# Altium schematic symbol library SamacSys.SchLib: 207 symbols (part 2 of 3)
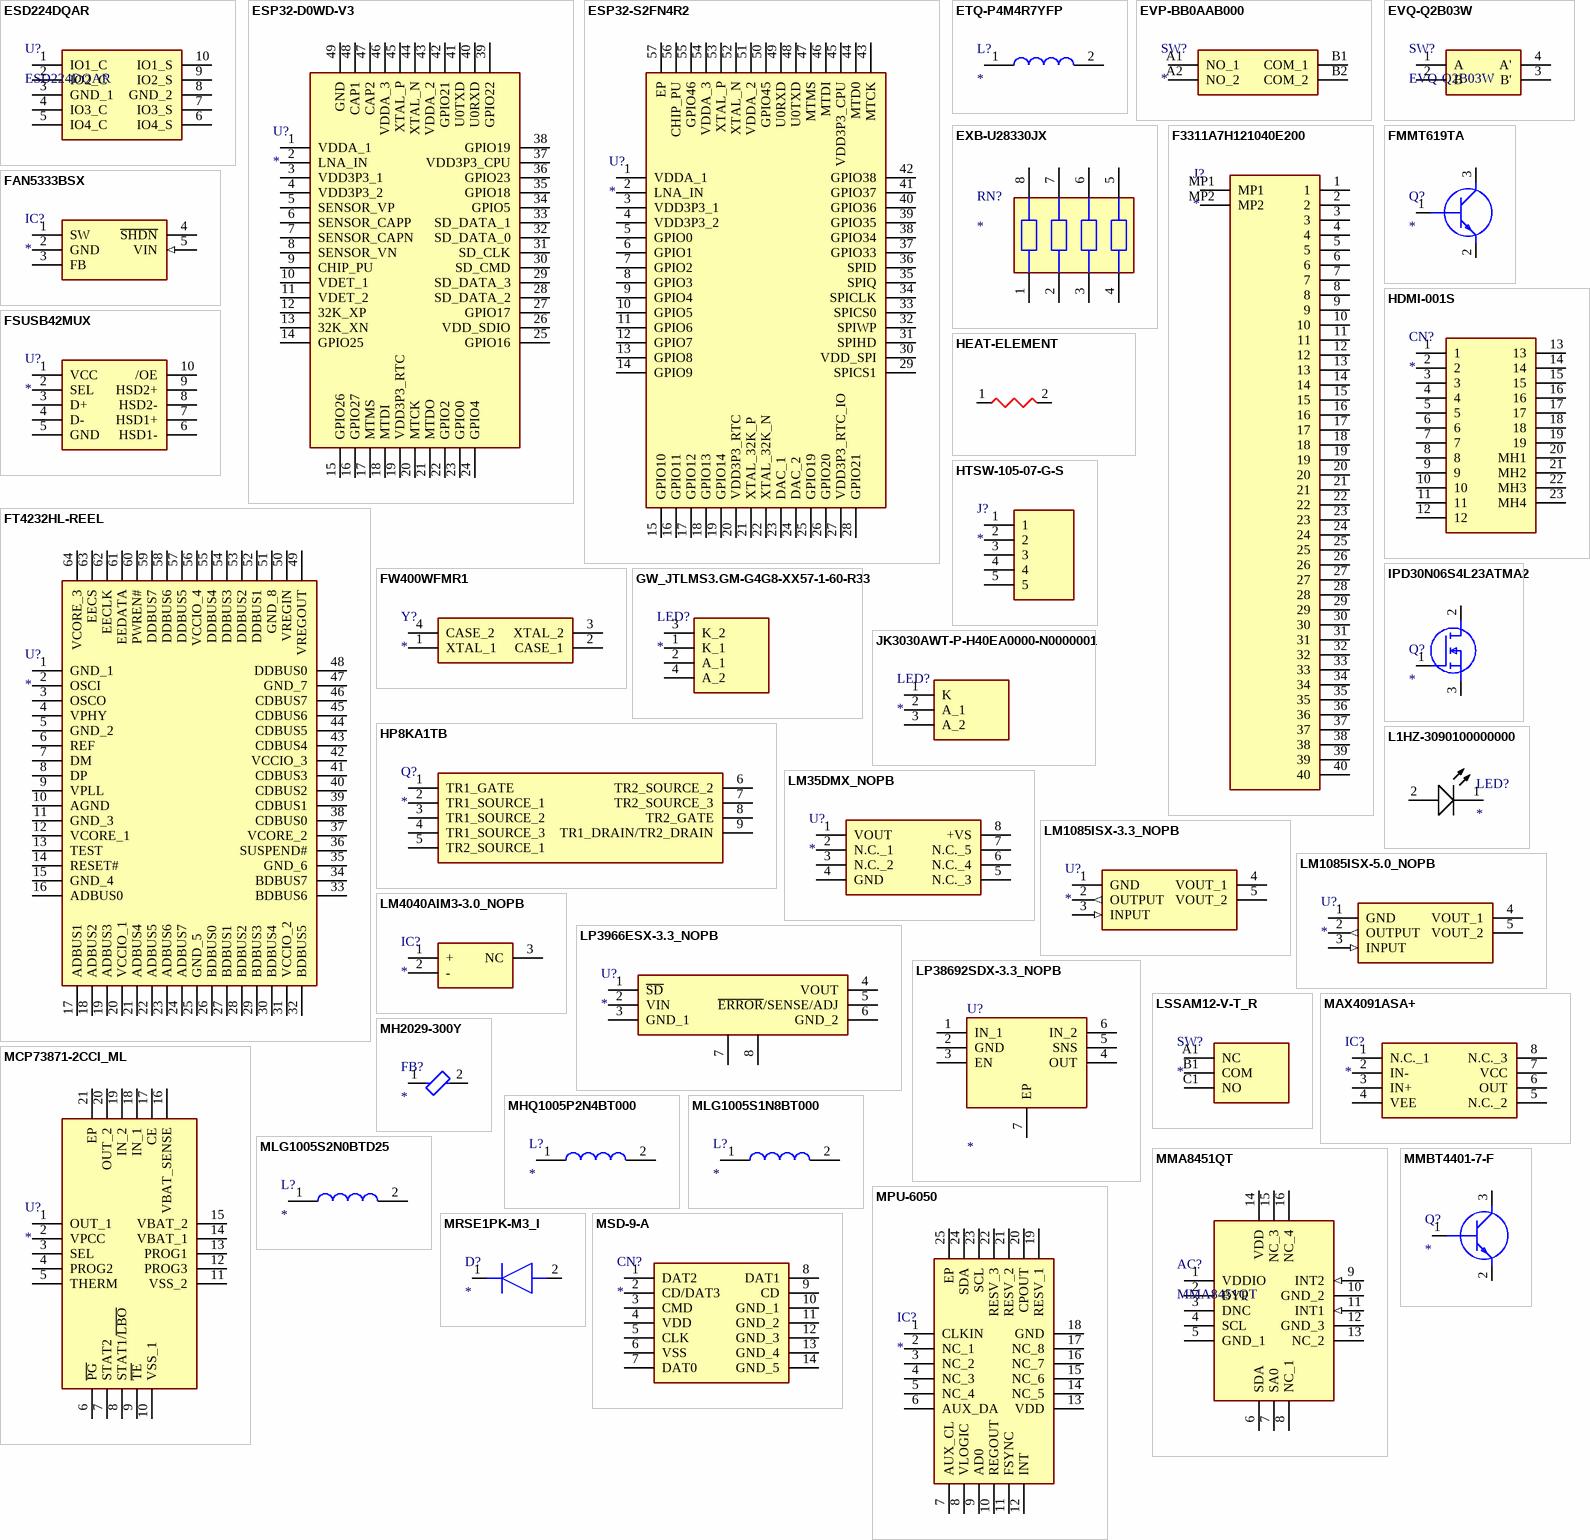
[diagram p6: symbols ESD224DQAR to MSD-9-A]

## HP8KA1TB
designator Q?
MOSFET (N-Channel); Manufacturer_Name: ROHM Semiconductor; Manufacturer_Part_Number: HP8KA1TB; Datasheet Link: https://fscdn.rohm.com/en/products/databook/datasheet/discrete/transistor/mosfet/hp8ka1tb-e.pdf; Height: 1.1mm; Mouser Part Number: 755-HP8KA1TB; Mouser Price/Stock: https://www.mouser.co.uk/ProductDetail/ROHM-Semiconductor/HP8KA1TB?qs=npTsUczJOtPdLcGD1GKCyQ%3D%3D
footprint HP8KA1TB
pins: 1 TR1_GATE, 2 TR1_SOURCE_1, 3 TR1_SOURCE_2, 4 TR1_SOURCE_3, 5 TR2_SOURCE_1, 6 TR2_SOURCE_2, 7 TR2_SOURCE_3, 8 TR2_GATE, 9 TR1_DRAIN/TR2_DRAIN

## HTSW-105-07-G-S
designator J?
Connector; Manufacturer_Name: SAMTEC; Manufacturer_Part_Number: HTSW-105-07-G-S; Datasheet Link: https://suddendocs.samtec.com/catalog_english/htsw_th.pdf; Height: 8.38mm; Mouser Part Number: 200-HTSW10507GS; Mouser Price/Stock: https://www.mouser.co.uk/ProductDetail/Samtec/HTSW-105-07-G-S?qs=0lQeLiL1qyYP8S6E61BbrA%3D%3D; Arrow Part Number: HTSW-105-07-G-S; Arrow Price/Stock: https://www.arrow.com/en/products/htsw-105-07-g-s/samtec?region=nac
footprint HDRV5W64P0X254_1X5_1270X248X838P
pins: 1, 2, 3, 4, 5

## IPD30N06S4L23ATMA2
designator Q?
MOSFET (N-Channel); Manufacturer_Name: Infineon; Manufacturer_Part_Number: IPD30N06S4L23ATMA2; Datasheet Link: https://www.infineon.com/dgdl/Infineon-IPD30N06S4L_23-DS-v01_00-en.pdf?fileId=db3a30431ff9881501203887944f0ca5; Height: 2.5mm; Mouser Part Number: 726-IPD30N06S4L23ATM; Mouser Price/Stock: https://www.mouser.co.uk/ProductDetail/Infineon-Technologies/IPD30N06S4L23ATMA2?qs=OwbwYO03UsKni%2FR9n11oHw%3D%3D; Arrow Part Number: IPD30N06S4L23ATMA2; Arrow Price/Stock: https://www.arrow.com/en/products/ipd30n06s4l23atma2/infineon-technologies-ag
footprint IPD30N06S4L23ATMA2
pins: 1 G, 2 D, 3 S

## JK3030AWT-P-H40EA0000-N0000001
designator LED?
LED; Manufacturer_Name: CREE LED; Manufacturer_Part_Number: JK3030AWT-P-H40EA0000-N0000001; Datasheet Link: https://cree-led.com/media/documents/data-sheet-JSeries-3030.pdf; Height: 0.72mm; Mouser Part Number: 941-JK3030AWTH40EAN; Mouser Price/Stock: https://www.mouser.co.uk/ProductDetail/Cree-LED/JK3030AWT-P-H40EA0000-N0000001?qs=7MVldsJ5UaynGButngdKhw%3D%3D
footprint JK3030AWTPH40EA0000N0000001
pins: 1 K, 2 A_1, 3 A_2

## L1HZ-3090100000000
designator LED?
LED; Manufacturer_Name: Lumileds; Manufacturer_Part_Number: L1HZ-3090100000000; Datasheet Link: https://lumileds.com/wp-content/uploads/2022/05/DS386-luxeon-hl1z-datasheet.pdf; Height: 0.43mm; Mouser Part Number: 997-L1HZ309010; Mouser Price/Stock: https://www.mouser.co.uk/ProductDetail/Lumileds/L1HZ-3090100000000?qs=vvQtp7zwQdPTkXhPXp6GNQ%3D%3D
footprint L1HZ3090100000000
pins: 1 K, 2 A

## LM35DMX_NOPB
designator U?
Integrated Circuit; Manufacturer_Name: Texas Instruments; Manufacturer_Part_Number: LM35DMX/NOPB; Datasheet Link: http://www.ti.com/lit/gpn/lm35; Height: 1.75mm; Mouser Part Number: 926-LM35DMX/NOPB; Mouser Price/Stock: https://www.mouser.co.uk/ProductDetail/Texas-Instruments/LM35DMX-NOPB?qs=QbsRYf82W3EWENRCd3%252BcOw%3D%3D; Arrow Part Number: LM35DMX/NOPB; Arrow Price/Stock: https://www.arrow.com/en/products/lm35dmxnopb/texas-instruments?region=europe
footprint SOIC127P600X175-8N
pins: 1 VOUT, 2 N.C._1, 3 N.C._2, 4 GND, 5 N.C._3, 6 N.C._4, 7 N.C._5, 8 +VS

## LM1085ISX-3.3_NOPB
designator U?
Integrated Circuit; Manufacturer_Name: Texas Instruments; Manufacturer_Part_Number: LM1085ISX-3.3/NOPB; Datasheet Link: https://www.ti.com/lit/gpn/lm1085?HQS=ti-null-null-sf-df-pf-sep-wwe&DCM=yes; Height: 4.79mm; Mouser Part Number: 926-LM1085ISX3.3NOPB; Mouser Price/Stock: https://www.mouser.co.uk/ProductDetail/Texas-Instruments/LM1085ISX-3.3-NOPB?qs=X1J7HmVL2ZFSdu4d0lbNZg%3D%3D; Arrow Part Number: LM1085ISX-3.3/NOPB; Arrow Price/Stock: https://www.arrow.com/en/products/lm1085isx-3.3nopb/texas-instruments?region=nac
footprint LM1085ISX33NOPB
pins: 1 GND, 2 OUTPUT (out), 3 INPUT (in), 4 VOUT_1, 5 VOUT_2

## LM1085ISX-5.0_NOPB
designator U?
Integrated Circuit; Manufacturer_Name: Texas Instruments; Manufacturer_Part_Number: LM1085ISX-3.3/NOPB; Datasheet Link: https://www.ti.com/lit/gpn/lm1085?HQS=ti-null-null-sf-df-pf-sep-wwe&DCM=yes; Height: 4.79mm; Mouser Part Number: 926-LM1085ISX3.3NOPB; Mouser Price/Stock: https://www.mouser.co.uk/ProductDetail/Texas-Instruments/LM1085ISX-3.3-NOPB?qs=X1J7HmVL2ZFSdu4d0lbNZg%3D%3D; Arrow Part Number: LM1085ISX-3.3/NOPB; Arrow Price/Stock: https://www.arrow.com/en/products/lm1085isx-3.3nopb/texas-instruments?region=nac
footprint LM1085ISX33NOPB
pins: 1 GND, 2 OUTPUT (out), 3 INPUT (in), 4 VOUT_1, 5 VOUT_2

## LM4040AIM3-3.0_NOPB
designator IC?
Integrated Circuit; Manufacturer_Name: Texas Instruments; Manufacturer_Part_Number: LM4040AIM3-3.0/NOPB; Datasheet Link: https://datasheet.datasheetarchive.com/originals/distributors/Datasheets-SFU2/DSASFU100036153.pdf; Height: 1.12mm; Mouser Part Number: 926-LM4040AIM330NOPB; Mouser Price/Stock: https://www.mouser.co.uk/ProductDetail/Texas-Instruments/LM4040AIM3-3.0-NOPB?qs=QbsRYf82W3H3fyrGL5Nr8g%3D%3D; Arrow Part Number: LM4040AIM3-3.0/NOPB; Arrow Price/Stock: https://www.arrow.com/en/products/lm4040aim3-3.0nopb/texas-instruments?region=nac
footprint SOT95P237X112-3N
pins: 1 +, 2 -, 3 NC

## LP3966ESX-3.3_NOPB
designator U?
Integrated Circuit; Manufacturer_Name: Texas Instruments; Manufacturer_Part_Number: LP3966ESX-3.3/NOPB; Datasheet Link: http://www.ti.com/lit/gpn/LP3966; Mouser Part Number: 926-LP3966ESX33NOPB; Mouser Price/Stock: https://www.mouser.com/Search/Refine.aspx?Keyword=926-LP3966ESX33NOPB
footprint KTT0005B
pins: 1 ~{SD}, 2 VIN, 3 GND_1, 4 VOUT, 5 ~{ERROR}/SENSE/ADJ, 6 GND_2, 7, 8

## LP38692SDX-3.3_NOPB
designator U?
Integrated Circuit; Manufacturer_Name: Texas Instruments; Manufacturer_Part_Number: LP38692SDX-3.3/NOPB; Datasheet Link: http://www.ti.com/lit/gpn/lp38692; Height: 0.8mm; Mouser Part Number: 926-LP38692SDX33NOPB; Mouser Price/Stock: https://www.mouser.co.uk/ProductDetail/Texas-Instruments/LP38692SDX-3.3-NOPB?qs=1FNqv8aZn1SJwWyCLbIANA%3D%3D; Supplier 1: Mouser; Supplier Part Number 1: 926-LP38692SDX33NOPB
footprint SON95P300X300X80-7N
pins: 1 IN_1, 2 GND, 3 EN, 4 OUT, 5 SNS, 6 IN_2, 7 EP

## LSSAM12-V-T_R
designator SW?
Switch; Manufacturer_Name: Diptronics; Manufacturer_Part_Number: LSSAM12-V-T/R; Datasheet Link: https://gr.mouser.com/datasheet/2/910/Diptronics_11152019_2602-1667530.pdf; Height: 5.5mm; Mouser Part Number: 113-LSSAM12VTR; Mouser Price/Stock: https://www.mouser.co.uk/ProductDetail/Diptronics/LSSAM12-V-T-R?qs=MLItCLRbWsxzhCytiCHsMw%3D%3D
footprint LSSAM12-V-T/R LCSC
pins: A1 NC, B1 COM, C1 NO

## MAX4091ASA+
designator IC?
Integrated Circuit; Manufacturer_Name: Analog Devices; Manufacturer_Part_Number: MAX4091ASA+; Datasheet Link: https://componentsearchengine.com/Datasheets/1/MAX4091ASA+.pdf; Height: 1.75mm; Mouser Part Number: 700-MAX4091ASA; Mouser Price/Stock: https://www.mouser.co.uk/ProductDetail/Maxim-Integrated/MAX4091ASA%2b?qs=1eQvB6Dk1vig4MEFXMvDTQ%3D%3D
footprint SOIC127P600X175-8N
pins: 1 N.C._1, 2 IN-, 3 IN+, 4 VEE, 5 N.C._2, 6 OUT, 7 VCC, 8 N.C._3

## MCP73871-2CCI_ML
designator U?
Integrated Circuit; Manufacturer_Name: Microchip; Manufacturer_Part_Number: MCP73871-2CCI/ML; Datasheet Link: https://datasheet.datasheetarchive.com/originals/distributors/Datasheets-DGA15/728881.pdf; Height: 1mm; Mouser Part Number: 579-MCP73871-2CCI/ML; Mouser Price/Stock: https://www.mouser.co.uk/ProductDetail/Microchip-Technology/MCP73871-2CCI-ML?qs=qXsUupcbpXyQfJ2clznZxw%3D%3D; Arrow Part Number: MCP73871-2CCI/ML; Arrow Price/Stock: https://www.arrow.com/en/products/mcp73871-2cciml/microchip-technology?region=nac
footprint QFN50P400X400X100-21N-D
pins: 1 OUT_1, 2 VPCC, 3 SEL, 4 PROG2, 5 THERM, 6 ~{PG}, 7 STAT2, 8 STAT1/~{LBO}, 9 ~{TE}, 10 VSS_1, 11 VSS_2, 12 PROG3, 13 PROG1, 14 VBAT_1, 15 VBAT_2, 16 VBAT_SENSE, 17 CE, 18 IN_1, 19 IN_2, 20 OUT_2, 21 EP

## MH2029-300Y
designator FB?
Ferrite Bead; Manufacturer_Name: Bourns; Manufacturer_Part_Number: MH2029-300Y; Datasheet Link: https://datasheet.datasheetarchive.com/originals/distributors/Datasheets-DGA19/994.pdf; Height: 1.3mm; Mouser Part Number: 652-MH2029-300Y; Mouser Price/Stock: https://www.mouser.co.uk/ProductDetail/Bourns/MH2029-300Y?qs=3U1hhDIovyEa7983kL6kaA%3D%3D; Arrow Part Number: MH2029-300Y; Arrow Price/Stock: https://www.arrow.com/en/products/mh2029-300y/bourns?region=europe
footprint BEADC2016X130N
pins: 1 3, 2 3

## MHQ1005P2N4BT000
designator L?
Inductor; Manufacturer_Name: TDK; Manufacturer_Part_Number: MHQ1005P2N4BT000; Datasheet Link: https://product.tdk.com/system/files/dam/doc/product/inductor/inductor/smd/catalog/inductor_commercial_high-frequency_mhq1005p_en.pdf
footprint MHQ1005
pins: 1, 2

## MLG1005S1N8BT000
designator L?
Inductor; Manufacturer_Name: TDK; Manufacturer_Part_Number: MLG1005S1N8BT000; Datasheet Link: https://product.tdk.com/system/files/dam/doc/product/inductor/inductor/smd/catalog/inductor_commercial_high-frequency_mlg1005s_en.pdf; Supplier 1: LCSC; Supplier Part Number 1: C87530; Supplier 2: Mouser; Supplier Part Number 2: 810-MLG1005S1N8BT000
footprint MLG1005
pins: 1, 2

## MLG1005S2N0BTD25
designator L?
Inductor; Manufacturer_Name: TDK; Manufacturer_Part_Number: MLG1005S2N0BTD25; Datasheet Link: https://product.tdk.com/system/files/dam/doc/product/inductor/inductor/smd/catalog/inductor_automotive_high-frequency_mlg1005s_en.pdf; Mouser Part Number: 810-MLG1005S2N0BTD25; Mouser Price/Stock: https://www.mouser.co.uk/ProductDetail/TDK/MLG1005S2N0BTD25?qs=u4%252BEJ9urDARbfrK%2Fvep%2FGg%3D%3D; Arrow Part Number: MLG1005S2N0BTD25; Arrow Price/Stock: https://www.arrow.com/en/products/mlg1005s2n0btd25/tdk; Supplier 1: LCSC; Supplier Part Number 1: C404617; Supplier 2: Mouser; Supplier Part Number 2: 810-MLG1005S2N0BTD25
footprint MLG1005
pins: 1, 2

## MMA8451QT
designator AC?
Accelerometer; Manufacturer_Name: NXP; Datasheet Link: http://www.nxp.com/docs/en/data-sheet/MMA8451Q.pdf; Height: 1mm; Manufacturer_Part_Number: mma8451qt; Mouser Part Number: 841-MMA8451QT; Mouser Price/Stock: https://www.mouser.co.uk/ProductDetail/NXP-Semiconductors/MMA8451QT?qs=nf24X8JpkflIa2CupKIQ%252BA%3D%3D; Arrow Part Number: MMA8451QT; Arrow Price/Stock: https://www.arrow.com/en/products/mma8451qt/nxp-semiconductors?region=nac
footprint PQFN50P300X300X100-16N
pins: 1 VDDIO (power), 2 BYP, 3 DNC, 4 SCL, 5 GND_1 (power), 6 SDA, 7 SA0, 8 NC_1, 9 INT2 (in), 10 GND_2 (power), 11 INT1 (in), 12 GND_3 (power), 13 NC_2, 14 VDD (power), 15 NC_3, 16 NC_4

## MMBT4401-7-F
designator Q?
Transistor BJT NPN; Manufacturer_Name: Diodes Incorporated; Manufacturer_Part_Number: MMBT4401-7-F; Datasheet Link: https://www.diodes.com//assets/Datasheets/MMBT4401.pdf; Height: 1.1mm; Mouser Part Number: 621-MMBT4401-F; Mouser Price/Stock: https://www.mouser.co.uk/ProductDetail/Diodes-Incorporated/MMBT4401-7-F?qs=Rwv7ujEfYYqx3Y8Q8S13Ow%3D%3D; Arrow Part Number: MMBT4401-7-F; Arrow Price/Stock: https://www.arrow.com/en/products/mmbt4401-7-f/diodes-incorporated?utm_currency=USD&region=nac
footprint SOT96P240X110-3N
pins: 1 B, 2 E, 3 C

## MPU-6050
designator IC?
Integrated Circuit; Manufacturer_Name: TDK; Datasheet Link: https://product.tdk.com/system/files/dam/doc/product/sensor/mortion-inertial/imu/data_sheet/mpu-6000-datasheet1.pdf; Height: 0.95mm; Manufacturer_Part_Number: MPU-6050; Mouser Part Number: 410-MPU-6050; Mouser Price/Stock: https://www.mouser.co.uk/ProductDetail/TDK-InvenSense/MPU-6050?qs=u4fy%2FsgLU9O14B5JgyQFvg%3D%3D; Arrow Part Number: MPU-6050; Arrow Price/Stock: https://www.arrow.com/en/products/mpu-6050/invensense?region=nac
footprint MPU6050
pins: 1 CLKIN, 2 NC_1, 3 NC_2, 4 NC_3, 5 NC_4, 6 AUX_DA, 7 AUX_CL, 8 VLOGIC, 9 AD0, 10 REGOUT, 11 FSYNC, 12 INT, 13 VDD, 14 NC_5, 15 NC_6, 16 NC_7, 17 NC_8, 18 GND, 19 RESV_1, 20 CPOUT, 21 RESV_2, 22 RESV_3, 23 SCL, 24 SDA, 25 EP

## MRSE1PK-M3_I
designator D?
Diode; Manufacturer_Name: Vishay; Manufacturer_Part_Number: MRSE1PK-M3/I; Datasheet Link: https://www.vishay.com/doc?98651; Height: 0.73mm
footprint MRSE1PKM3I
pins: 1 K, 2 A

## MSD-9-A
designator CN?
Connector; Manufacturer_Name: CUI Devices; Manufacturer_Part_Number: MSD-9-A; Datasheet Link: https://www.cuidevices.com/product/resource/msd-9-a.pdf; Height: 1.65mm
footprint MSD9A
pins: 1 DAT2, 2 CD/DAT3, 3 CMD, 4 VDD, 5 CLK, 6 VSS, 7 DAT0, 8 DAT1, 9 CD, 10 GND_1, 11 GND_2, 12 GND_3, 13 GND_4, 14 GND_5

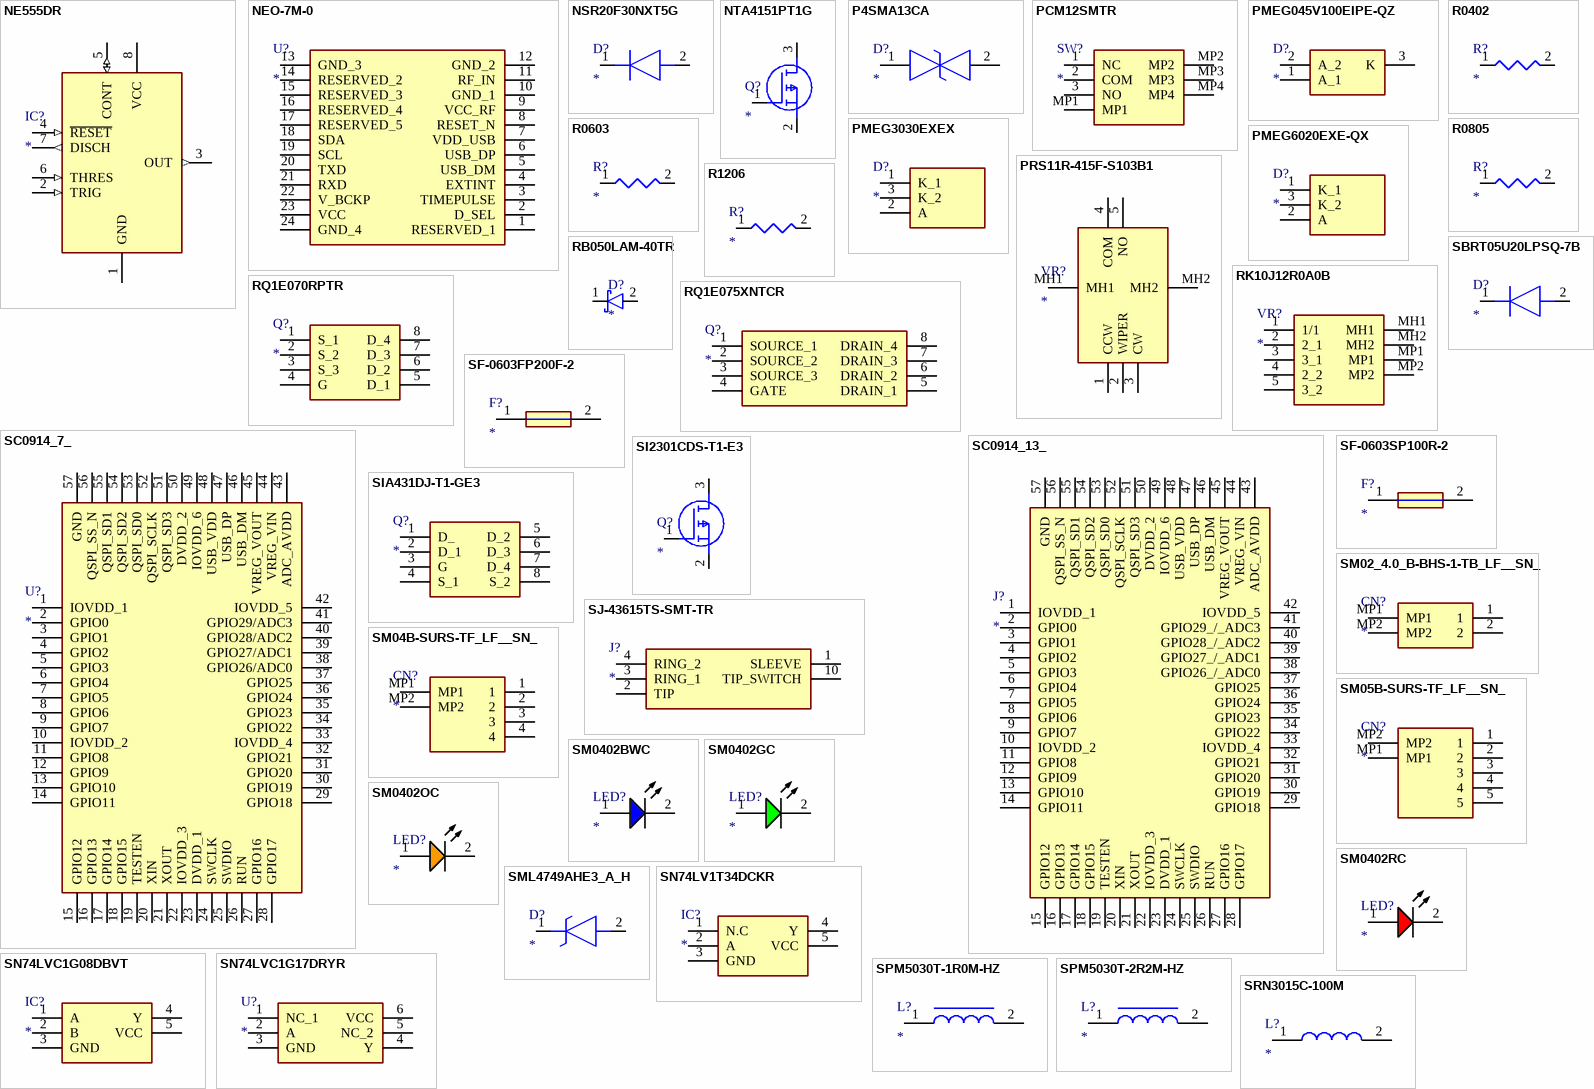
[diagram p3: symbols NE555DR to SRN3015C-100M]

## NE555DR
designator IC?
Integrated Circuit; Manufacturer_Name: Texas Instruments; Manufacturer_Part_Number: NE555DR; Datasheet Link: http://www.ti.com/lit/ds/symlink/ne555.pdf; Height: 1.75mm; Mouser Part Number: 595-NE555DR; Mouser Price/Stock: https://www.mouser.com/Search/Refine.aspx?Keyword=595-NE555DR; RS Part Number: 1218414; RS Price/Stock: http://uk.rs-online.com/web/p/products/1218414
footprint SOIC127P600X175-8N
pins: 1 GND (power), 2 TRIG (in), 3 OUT (out), 4 ~{RESET} (in), 5 CONT (io), 6 THRES (in), 7 DISCH (out), 8 VCC (power)

## NEO-7M-0
designator U?
Undefined or Miscellaneous; Manufacturer_Name: U-Blox; Manufacturer_Part_Number: NEO-7M-0; Datasheet Link: https://www.u-blox.com/sites/default/files/products/documents/NEO-7_DataSheet_%28UBX-13003830%29.pdf; Height: 2.6mm; Mouser Part Number: 377-NEO-7M-0; Mouser Price/Stock: https://www.mouser.co.uk/ProductDetail/u-blox/NEO-7M-0?qs=KUoIvG%2F9Ilb2dHa1StWjzQ%3D%3D
footprint NEO7M0
pins: 1 RESERVED_1, 2 D_SEL, 3 TIMEPULSE, 4 EXTINT, 5 USB_DM, 6 USB_DP, 7 VDD_USB, 8 RESET_N, 9 VCC_RF, 10 GND_1, 11 RF_IN, 12 GND_2, 13 GND_3, 14 RESERVED_2, 15 RESERVED_3, 16 RESERVED_4, 17 RESERVED_5, 18 SDA, 19 SCL, 20 TXD, 21 RXD, 22 V_BCKP, 23 VCC, 24 GND_4

## NSR20F30NXT5G
designator D?
Diode; Manufacturer_Name: onsemi; Manufacturer_Part_Number: NSR20F30NXT5G; Datasheet Link: http://www.onsemi.com/pub/Collateral/NSR20F30-D.PDF; Mouser Part Number: 863-NSR20F30NXT5G; Mouser Price/Stock: https://www.mouser.co.uk/ProductDetail/onsemi/NSR20F30NXT5G?qs=3ezCrKCRT5K%2FARb%252BJ8n8Hg%3D%3D; Arrow Part Number: NSR20F30NXT5G; Arrow Price/Stock: null?region=nac
footprint DSN2_1
pins: 1 K, 2 A

## NTA4151PT1G
designator Q?
MOSFET (P-Channel); Manufacturer_Name: onsemi; Manufacturer_Part_Number: NTA4151PT1G; Datasheet Link: http://www.onsemi.com/pub/Collateral/NTA4151P-D.PDF; Height: 0.9mm; Mouser Part Number: 863-NTA4151PT1G; Mouser Price/Stock: https://www.mouser.co.uk/ProductDetail/onsemi/NTA4151PT1G?qs=ZXBb0xZ9WeC9bannzQa%2FPw%3D%3D; Arrow Part Number: NTA4151PT1G; Arrow Price/Stock: https://www.arrow.com/en/products/nta4151pt1g/on-semiconductor?region=nac
footprint SOT50P160X90-3N
pins: 1 G, 2 S, 3 D

## P4SMA13CA
designator D?
TVS Diode (Bi-directional); Manufacturer_Name: LITTELFUSE; Manufacturer_Part_Number: P4SMA13CA; Datasheet Link: https://m.littelfuse.com/~/media/electronics/datasheets/tvs_diodes/littelfuse_tvs_diode_p4sma_datasheet.pdf.pdf; Height: 2.29mm; Mouser Part Number: 576-P4SMA13CA; Mouser Price/Stock: https://www.mouser.co.uk/ProductDetail/Littelfuse/P4SMA13CA?qs=HR2RnyOI4E7NzB84bX930g%3D%3D; Arrow Part Number: P4SMA13CA; Arrow Price/Stock: https://www.arrow.com/en/products/p4sma13ca/littelfuse
footprint DIONM5026X229N
pins: 1, 2

## PCM12SMTR
designator SW?
Switch; Manufacturer_Name: C & K COMPONENTS; Manufacturer_Part_Number: PCM12SMTR; Datasheet Link: https://www.ckswitches.com/media/1424/pcm.pdf; Height: 1.4mm; Mouser Part Number: 611-PCM12SMTR; Mouser Price/Stock: https://www.mouser.co.uk/ProductDetail/CK/PCM12SMTR?qs=mfFuHy8STfL3qrPSfCHA7w%3D%3D; Arrow Part Number: PCM12SMTR; Arrow Price/Stock: https://www.arrow.com/en/products/pcm12smtr/ck?region=nac
footprint PCM12SMTR
pins: 1 NC, 2 COM, 3 NO, MP1, MP2, MP3, MP4

## PMEG045V100EIPE-QZ
designator D?
Schottky Diode; Manufacturer_Name: Nexperia; Manufacturer_Part_Number: PMEG045V100EIPE-QZ; Datasheet Link: https://assets.nexperia.com/documents/data-sheet/PMEG045V100EIPE-Q.pdf; Height: 0.99mm; Mouser Part Number: 771-MEG045V100EIPEQZ; Mouser Price/Stock: https://www.mouser.co.uk/ProductDetail/Nexperia/PMEG045V100EIPE-QZ?qs=vvQtp7zwQdN%252BeVHHcFKyew%3D%3D
footprint PMEG045V100EIPEQZ
pins: 1 A_1, 2 A_2, 3 K

## PMEG3030EXEX
designator D?
Schottky Diode; Manufacturer_Name: Nexperia; Manufacturer_Part_Number: PMEG3030EXEX; Datasheet Link: https://assets.nexperia.com/documents/data-sheet/PMEG4010EXE.pdf; Height: 1mm
footprint PMEG4010EXEX
pins: 1 K_1, 2 A, 3 K_2

## PMEG6020EXE-QX
designator D?
Schottky Diode; Manufacturer_Name: Nexperia; Manufacturer_Part_Number: PMEG6020EXE-QX; Datasheet Link: https://assets.nexperia.com/documents/data-sheet/PMEG6020EXE-Q.pdf; Height: 1mm
footprint PMEG6020EXEQX
pins: 1 K_1, 2 A, 3 K_2

## PRS11R-415F-S103B1
designator VR?
Variable Resistor; Manufacturer_Name: Bourns; Manufacturer_Part_Number: PRS11R-415F-S103B1; Datasheet Link: https://www.mouser.com/catalog/specsheets/Bourns_03252021_PRS11R_datasheet.pdf; Height: 21.8mm; Mouser Part Number: 652-PRS11R415FS103B1; Mouser Price/Stock: https://www.mouser.co.uk/ProductDetail/Bourns/PRS11R-415F-S103B1?qs=IS%252B4QmGtzzqr7i5UCgusAg%3D%3D; Arrow Part Number: PRS11R-415F-S103B1; Arrow Price/Stock: https://www.arrow.com/en/products/prs11r-415f-s103b1/bourns?region=nac
footprint PRS11R415FS103B1
pins: 1 CCW, 2 WIPER, 3 CW, 4 COM, 5 NO, MH1, MH2

## R0402
designator R?
R0402; Height: 0.4mm
footprint ERA2AED122X
pins: 1, 2

## R0603
designator R?
R0603; Height: 0.4mm
footprint ERA3KV_(0603)
pins: 1, 2

## R0805
designator R?
R0805; Height: 0.6mm
footprint ERA6AEB1020V
pins: 1, 2

## R1206
designator R?
R1206
footprint ERA8P
pins: 1, 2

## RB050LAM-40TR
designator D?
Schottky Diode; Manufacturer_Name: ROHM Semiconductor; Manufacturer_Part_Number: RB050LAM-40TR; Datasheet Link: https://fscdn.rohm.com/en/products/databook/datasheet/discrete/diode/schottky_barrier/rb050lam-40tr-e.pdf; Height: 1.05mm; Mouser Part Number: 755-RB050LAM-40TR; Mouser Price/Stock: https://www.mouser.co.uk/ProductDetail/ROHM-Semiconductor/RB050LAM-40TR?qs=gt1LBUVyoHlwe%2FI5DePODg%3D%3D
footprint SODFL4725X105N
pins: 1, 2

## RK10J12R0A0B
designator VR?
Variable Resistor; Manufacturer_Name: ALPS Electric; Manufacturer_Part_Number: RK10J12R0A0B; Datasheet Link: https://www.alps.com/prod/info/E/HTML/Potentiometer/RotaryPotentiometers/RKJ1/RK10J12R0A0B.html; Height: 2.5mm; Mouser Part Number: 688-RK10J12R0A0B; Mouser Price/Stock: https://www.mouser.co.uk/ProductDetail/Alps-Alpine/RK10J12R0A0B?qs=nR5Mw3RKkX4o8TMzstLlKA%3D%3D
footprint RK10J12R0A0B
pins: 1 1/1, 2 2_1, 3 3_1, 4 2_2, 5 3_2, MH1, MH2, MP1, MP2

## RQ1E070RPTR
designator Q?
MOSFET (P-Channel); Manufacturer_Name: ROHM Semiconductor; Manufacturer_Part_Number: RQ1E070RPTR; Datasheet Link: https://fscdn.rohm.com/en/products/databook/datasheet/discrete/transistor/mosfet/rq1e070rp-e.pdf; Height: 0.85mm; Mouser Part Number: 755-RQ1E070RPTR; Mouser Price/Stock: https://www.mouser.co.uk/ProductDetail/ROHM-Semiconductor/RQ1E070RPTR?qs=IsRgwgmxh69DufX0QLYkBg%3D%3D
footprint RQ1E070RPTR
pins: 1 S_1, 2 S_2, 3 S_3, 4 G, 5 D_1, 6 D_2, 7 D_3, 8 D_4

## RQ1E075XNTCR
designator Q?
MOSFET (N-Channel); Manufacturer_Name: ROHM Semiconductor; Manufacturer_Part_Number: RQ1E075XNTCR; Datasheet Link: https://fscdn.rohm.com/en/products/databook/datasheet/discrete/transistor/mosfet/rq1e075xntcr-e.pdf; Height: 0.85mm; Mouser Part Number: 755-RQ1E075XNTCR; Mouser Price/Stock: https://www.mouser.co.uk/ProductDetail/ROHM-Semiconductor/RQ1E075XNTCR?qs=4v%252BiZTmLVHES3WFA41QF%2FA%3D%3D
footprint RQ1E075XNTCR
pins: 1 SOURCE_1, 2 SOURCE_2, 3 SOURCE_3, 4 GATE, 5 DRAIN_1, 6 DRAIN_2, 7 DRAIN_3, 8 DRAIN_4

## SBRT05U20LPSQ-7B
designator D?
Diode; Manufacturer_Name: Diodes Incorporated; Manufacturer_Part_Number: SBRT05U20LPSQ-7B; Datasheet Link: https://componentsearchengine.com/Datasheets/2/SBRT05U20LPSQ-7B.pdf; Height: 0.4mm; Mouser Part Number: 621-SBRT05U20LPSQ-7B; Mouser Price/Stock: https://www.mouser.co.uk/ProductDetail/Diodes-Incorporated/SBRT05U20LPSQ-7B?qs=Cb2nCFKsA8rYOfAdmv62Rg%3D%3D; Arrow Part Number: SBRT05U20LPSQ-7B; Arrow Price/Stock: https://www.arrow.com/en/products/sbrt05u20lpsq-7b/diodes-incorporated?region=nac
footprint SBRT05U20LPSQ7B
pins: 1 K, 2 A

## SC0914_7_
designator U?
Connector; Manufacturer_Name: RASPBERRY-PI; Manufacturer_Part_Number: SC0914(7); Datasheet Link: https://www.mouser.com/datasheet/2/635/rp2040_datasheet-3048960.pdf; Height: 0.9mm; Mouser Part Number: 358-SC09147; Mouser Price/Stock: https://www.mouser.co.uk/ProductDetail/Raspberry-Pi/SC09147?qs=T%252BzbugeAwjhSpdbCB4ve%252Bg%3D%3D
footprint QFN40P700X700X90-57N-D
pins: 1 IOVDD_1, 2 GPIO0, 3 GPIO1, 4 GPIO2, 5 GPIO3, 6 GPIO4, 7 GPIO5, 8 GPIO6, 9 GPIO7, 10 IOVDD_2, 11 GPIO8, 12 GPIO9, 13 GPIO10, 14 GPIO11, 15 GPIO12, 16 GPIO13, 17 GPIO14, 18 GPIO15, 19 TESTEN, 20 XIN, 21 XOUT, 22 IOVDD_3, 23 DVDD_1, 24 SWCLK, 25 SWDIO, 26 RUN, 27 GPIO16, 28 GPIO17, 29 GPIO18, 30 GPIO19, 31 GPIO20, 32 GPIO21, 33 IOVDD_4, 34 GPIO22, 35 GPIO23, 36 GPIO24, 37 GPIO25, 38 GPIO26/ADC0, 39 GPIO27/ADC1, 40 GPIO28/ADC2, 41 GPIO29/ADC3, 42 IOVDD_5, 43 ADC_AVDD, 44 VREG_VIN, 45 VREG_VOUT, 46 USB_DM, 47 USB_DP, 48 USB_VDD, 49 IOVDD_6, 50 DVDD_2, 51 QSPI_SD3, 52 QSPI_SCLK, 53 QSPI_SD0, 54 QSPI_SD2, 55 QSPI_SD1, 56 QSPI_SS_N, 57 GND

## SC0914_13_
designator J?
Connector; Manufacturer_Name: RASPBERRY-PI; Manufacturer_Part_Number: SC0914(13); Datasheet Link: https://datasheets.raspberrypi.com/rp2040/rp2040-datasheet.pdf; Height: 0.9mm; Mouser Part Number: 358-SC091413; Mouser Price/Stock: https://www.mouser.co.uk/ProductDetail/Raspberry-Pi/SC091413?qs=T%252BzbugeAwjhr%252BUbBr3TJcw%3D%3D
footprint SC091413
pins: 1 IOVDD_1, 2 GPIO0, 3 GPIO1, 4 GPIO2, 5 GPIO3, 6 GPIO4, 7 GPIO5, 8 GPIO6, 9 GPIO7, 10 IOVDD_2, 11 GPIO8, 12 GPIO9, 13 GPIO10, 14 GPIO11, 15 GPIO12, 16 GPIO13, 17 GPIO14, 18 GPIO15, 19 TESTEN, 20 XIN, 21 XOUT, 22 IOVDD_3, 23 DVDD_1, 24 SWCLK, 25 SWDIO, 26 RUN, 27 GPIO16, 28 GPIO17, 29 GPIO18, 30 GPIO19, 31 GPIO20, 32 GPIO21, 33 IOVDD_4, 34 GPIO22, 35 GPIO23, 36 GPIO24, 37 GPIO25, 38 GPIO26_/_ADC0, 39 GPIO27_/_ADC1, 40 GPIO28_/_ADC2, 41 GPIO29_/_ADC3, 42 IOVDD_5, 43 ADC_AVDD, 44 VREG_VIN, 45 VREG_VOUT, 46 USB_DM, 47 USB_DP, 48 USB_VDD, 49 IOVDD_6, 50 DVDD_2, 51 QSPI_SD3, 52 QSPI_SCLK, 53 QSPI_SD0, 54 QSPI_SD2, 55 QSPI_SD1, 56 QSPI_SS_N, 57 GND

## SF-0603FP200F-2
designator F?
Fuse; Manufacturer_Name: Bourns; Manufacturer_Part_Number: SF-0603FP200F-2; Datasheet Link: https://datasheet.datasheetarchive.com/originals/distributors/DKDS-39/4947.pdf; Height: 0.4mm; Mouser Part Number: 652-SF-0603FP200F-2; Mouser Price/Stock: https://www.mouser.co.uk/ProductDetail/Bourns/SF-0603FP200F-2?qs=55YtniHzbhDeMx1qpmiJFw%3D%3D; Arrow Part Number: SF-0603FP200F-2; Arrow Price/Stock: https://www.arrow.com/en/products/sf-0603fp200f-2/bourns?region=nac
footprint SF0603FP200F2
pins: 1, 2

## SF-0603SP100R-2
designator F?
Fuse; Manufacturer_Name: Bourns; Manufacturer_Part_Number: SF-0603SP100R-2; Datasheet Link: https://www.bourns.com/docs/Product-Datasheets/SF-0603SP-R.pdf; Height: 0.7mm; Mouser Part Number: 652-SF-0603SP100R-2; Mouser Price/Stock: https://www.mouser.co.uk/ProductDetail/Bourns/SF-0603SP100R-2?qs=QpmGXVUTftExtzNRMjcSNA%3D%3D
footprint FUSC1608X70N
pins: 1, 2

## SI2301CDS-T1-E3
designator Q?
MOSFET (P-Channel); Manufacturer_Name: Vishay; Manufacturer_Part_Number: SI2301CDS-T1-E3; Datasheet Link: https://componentsearchengine.com/Datasheets/2/SI2301CDS-T1-E3.pdf; Height: 1.12mm; Mouser Part Number: 781-SI2301CDS-E3; Mouser Price/Stock: https://www.mouser.co.uk/ProductDetail/Vishay-Semiconductors/SI2301CDS-T1-E3?qs=45wPT2wjtGkQH%252ByrbRpz4Q%3D%3D; Arrow Part Number: SI2301CDS-T1-E3; Arrow Price/Stock: https://www.arrow.com/en/products/si2301cds-t1-e3/vishay?region=nac
footprint SOT95P237X112-3N
pins: 1 G, 2 S, 3 D

## SIA431DJ-T1-GE3
designator Q?
MOSFET (P-Channel); Manufacturer_Name: Vishay; Manufacturer_Part_Number: SIA431DJ-T1-GE3; Datasheet Link: https://componentsearchengine.com/Datasheets/1/SIA431DJ-T1-GE3.pdf; Height: 0.8mm; Mouser Part Number: 781-SIA431DJ-GE3; Mouser Price/Stock: https://www.mouser.co.uk/ProductDetail/Vishay-Semiconductors/SIA431DJ-T1-GE3?qs=kt16UJ73eEGJGPQ3UeIx%2FQ%3D%3D; Arrow Part Number: SIA431DJ-T1-GE3; Arrow Price/Stock: https://www.arrow.com/en/products/sia431dj-t1-ge3/vishay?region=nac
footprint SIA431DJT1GE3
pins: 1 D_, 2 D_1, 3 G, 4 S_1, 5 D_2, 6 D_3, 7 D_4, 8 S_2

## SJ-43615TS-SMT-TR
designator J?
Connector; Manufacturer_Name: CUI Devices; Manufacturer_Part_Number: SJ-43615TS-SMT-TR; Datasheet Link: https://www.cuidevices.com/product/resource/sj-4361x-smt.pdf; Height: 5.6mm; Mouser Part Number: 490-SJ43615TSSMTTR; Mouser Price/Stock: https://www.mouser.co.uk/ProductDetail/CUI-Devices/SJ-43615TS-SMT-TR?qs=WyjlAZoYn530BfsOg65Nnw%3D%3D; Arrow Part Number: SJ-43615TS-SMT-TR; Arrow Price/Stock: https://www.arrow.com/en/products/sj-43615ts-smt-tr/cui-devices?region=nac
footprint SJ43615TSSMTTR
pins: 1 SLEEVE, 2 TIP, 3 RING_1, 4 RING_2, 10 TIP_SWITCH

## SM02_4.0_B-BHS-1-TB_LF__SN_
designator CN?
Connector; Manufacturer_Name: JST (JAPAN SOLDERLESS TERMINALS); Manufacturer_Part_Number: SM02(4.0)B-BHS-1-TB(LF)(SN); Datasheet Link: https://www.arrow.com/en/products/sm02-4.0b-bhs-1-tb-lf-sn/jst-manufacturing; Height: 3.2mm; Arrow Part Number: SM02(4.0)B-BHS-1-TB(LF)(SN); Arrow Price/Stock: https://www.arrow.com/en/products/sm02-4.0b-bhs-1-tb-lf-sn/jst-manufacturing
footprint SM0240BBHS1TBLFSN
pins: 1, 2, MP1, MP2

## SM04B-SURS-TF_LF__SN_
designator CN?
Connector; Manufacturer_Name: JST (JAPAN SOLDERLESS TERMINALS); Manufacturer_Part_Number: SM04B-SURS-TF(LF)(SN); Datasheet Link: http://www.farnell.com/datasheets/1718811.pdf; Height: 1.75mm; Mouser Part Number: 306-SM04BSURSTFLFSN; Mouser Price/Stock: https://www.mouser.co.uk/ProductDetail/JST-Commercial/SM04B-SURS-TFLFSN?qs=QpmGXVUTftFhRW6HxtE%252BdA%3D%3D; Arrow Part Number: SM04B-SURS-TF(LF)(SN); Arrow Price/Stock: https://www.arrow.com/en/products/sm04b-surs-tf-lf-sn/jst-manufacturing?utm_currency=USD&region=europe
footprint SM04BSURSTFLFSN
pins: 1, 2, 3, 4, MP1, MP2

## SM05B-SURS-TF_LF__SN_
designator CN?
Connector; Manufacturer_Name: JST (JAPAN SOLDERLESS TERMINALS); Manufacturer_Part_Number: SM05B-SURS-TF(LF)(SN); Datasheet Link: http://www.jst-mfg.com/product/pdf/eng/eSUR.pdf; Height: 2.7mm
footprint SM05BSURSTFLFSN
pins: 1, 2, 3, 4, 5, MP1, MP2

## SM0402BWC
designator LED?
LED BLUE; Manufacturer_Name: Bivar; Manufacturer_Part_Number: SM0402BWC; Datasheet Link: https://www.mouser.com/datasheet/2/50/SM0402BWC-3001603.pdf; Height: 0.6524mm; Mouser Part Number: 749-SM0402BWC; Mouser Price/Stock: https://www.mouser.com/ProductDetail/Bivar/SM0402BWC?qs=sGAEpiMZZMt82OzCyDsLFO2QpFQ26hgY1ciTeLNlrlo%3D; Arrow Part Number: SM0402BWC
footprint SM0402BWC
pins: 1 A, 2 K

## SM0402GC
designator LED?
LED GREEN; Manufacturer_Name: Bivar; Manufacturer_Part_Number: SM0402GC; Datasheet Link: https://www.bivar.com/parts_content/Datasheets/SM0402GC.pdf; Height: 0.6524mm; Mouser Part Number: 749-SM0402GC; Mouser Price/Stock: https://www.mouser.co.uk/ProductDetail/Bivar/SM0402GC?qs=AQlKX63v8RuLeMPnNMtW7A%3D%3D; Arrow Part Number: SM0402GC; Arrow Price/Stock: https://www.arrow.com/en/products/sm0402gc/bivar?region=nac
footprint SM0402GC
pins: 1 A, 2 K

## SM0402OC
designator LED?
LED ORANGE; Manufacturer_Name: Bivar; Manufacturer_Part_Number: SM0402OC; Datasheet Link: https://www.bivar.com/parts_content/Datasheets/SM0402OC.pdf; Height: 0.6524mm; Mouser Part Number: 749-SM0402OC; Arrow Part Number: SM0402OC
footprint SM0402OC
pins: 1 A, 2 K

## SM0402RC
designator LED?
LED RED; Manufacturer_Name: Bivar; Manufacturer_Part_Number: SM0402RC; Datasheet Link: https://www.bivar.com/parts_content/Datasheets/SM0402RC.pdf; Height: 0.6524mm; Mouser Part Number: 749-SM0402RC; Mouser Price/Stock: https://www.mouser.co.uk/ProductDetail/Bivar/SM0402RC?qs=AQlKX63v8RtYE%2FAH%2F7Qnaw%3D%3D; Arrow Part Number: SM0402RC; Arrow Price/Stock: https://www.arrow.com/en/products/sm0402rc/bivar?region=nac
footprint SM0402RC
pins: 1 A, 2 K

## SML4749AHE3_A_H
designator D?
Zener Diode; Manufacturer_Name: Vishay; Manufacturer_Part_Number: SML4749AHE3_A/H; Datasheet Link: https://www.mouser.in/datasheet/2/427/sml4738-1767591.pdf; Height: 2.29mm; Mouser Part Number: 78-SML4749AHE3_A/H; Mouser Price/Stock: https://www.mouser.co.uk/ProductDetail/Vishay-Semiconductors/SML4749AHE3_A-H?qs=BJlw7L4Cy78C7vo%252Bwg7yig%3D%3D
footprint DIOM5127X229N
pins: 1 K, 2 A

## SN74LV1T34DCKR
designator IC?
Integrated Circuit; Manufacturer_Name: Texas Instruments; Manufacturer_Part_Number: SN74LV1T34DCKR; Datasheet Link: http://www.ti.com/lit/gpn/sn74lv1t34; Height: 1.1mm; Mouser Part Number: 595-SN74LV1T34DCKR; Mouser Price/Stock: https://www.mouser.co.uk/ProductDetail/Texas-Instruments/SN74LV1T34DCKR?qs=8sOby8ZxZLGjFfifrzzjkQ%3D%3D; Arrow Part Number: SN74LV1T34DCKR; Arrow Price/Stock: https://www.arrow.com/en/products/sn74lv1t34dckr/texas-instruments?region=nac
footprint SOT65P210X110-5N
pins: 1 N.C, 2 A, 3 GND, 4 Y, 5 VCC

## SN74LVC1G08DBVT
designator IC?
Integrated Circuit; Manufacturer_Name: Texas Instruments; Manufacturer_Part_Number: SN74LVC1G08DBVT; Datasheet Link: http://www.ti.com/lit/gpn/sn74lvc1g08; Height: 1.45mm; Mouser Part Number: 595-SN74LVC1G08DBVT; Mouser Price/Stock: https://www.mouser.co.uk/ProductDetail/Texas-Instruments/SN74LVC1G08DBVT?qs=nqigI8dpoHJVJyaZlPLFSg%3D%3D; Arrow Part Number: SN74LVC1G08DBVT; Arrow Price/Stock: https://www.arrow.com/en/products/sn74lvc1g08dbvt/texas-instruments?region=nac
footprint SOT95P280X145-5N
pins: 1 A, 2 B, 3 GND, 4 Y, 5 VCC

## SN74LVC1G17DRYR
designator U?
Integrated Circuit; Manufacturer_Name: Texas Instruments; Manufacturer_Part_Number: SN74LVC1G17DRYR; Datasheet Link: http://www.ti.com/lit/gpn/sn74lvc1g17; Height: 0mm; Mouser Part Number: 595-SN74LVC1G17DRYR; Mouser Price/Stock: https://www.mouser.co.uk/ProductDetail/Texas-Instruments/SN74LVC1G17DRYR?qs=7kv20MEVUljunoby3hBH2A%3D%3D; Arrow Part Number: SN74LVC1G17DRYR; Arrow Price/Stock: https://www.arrow.com/en/products/sn74lvc1g17dryr/texas-instruments?utm_currency=USD&region=nac
footprint TPS3420DDRYR
pins: 1 NC_1, 2 A, 3 GND, 4 Y, 5 NC_2, 6 VCC

## SPM5030T-1R0M-HZ
designator L?
Inductor (FeSi Core); Manufacturer_Name: TDK; Manufacturer_Part_Number: SPM5030T-1R0M-HZ; Datasheet Link: https://product.tdk.com/system/files/dam/doc/product/inductor/inductor/smd/catalog/inductor_automotive_power_spm5030-hz_en.pdf; Mouser Part Number: 810-SPM5030T-1R0M-HZ; Mouser Price/Stock: https://www.mouser.co.uk/ProductDetail/TDK/SPM5030T-1R0M-HZ?qs=lYGu3FyN48f37%252BxFpB09sg%3D%3D; Arrow Part Number: SPM5030T-1R0M-HZ; Arrow Price/Stock: https://www.arrow.com/en/products/spm5030t-1r0m-hz/tdk
footprint SPM5030
pins: 1, 2

## SPM5030T-2R2M-HZ
designator L?
Inductor (FeSi Core); Manufacturer_Name: TDK; Manufacturer_Part_Number: SPM5030T-2R2M-HZ; Datasheet Link: https://product.tdk.com/system/files/dam/doc/product/inductor/inductor/smd/catalog/inductor_automotive_power_spm5030-hz_en.pdf; Mouser Part Number: 810-SPM5030T-2R2M-HZ; Mouser Price/Stock: https://www.mouser.co.uk/ProductDetail/TDK/SPM5030T-2R2M-HZ?qs=lYGu3FyN48ejhzrgoTIY3w%3D%3D; Arrow Part Number: SPM5030T-2R2M-HZ; Arrow Price/Stock: https://www.arrow.com/en/products/spm5030t-2r2m-hz/tdk?region=nac
footprint SPM5030
pins: 1, 2

## SRN3015C-100M
designator L?
Inductor; Manufacturer_Name: Bourns; Manufacturer_Part_Number: SRN3015C-100M; Datasheet Link: https://www.bourns.com/docs/Product-Datasheets/SRN3015C.pdf; Height: 1.5mm; Mouser Part Number: 652-SRN3015C-100M; Mouser Price/Stock: https://www.mouser.co.uk/ProductDetail/Bourns/SRN3015C-100M?qs=MyNHzdoqoQJS5D72AEZxBQ%3D%3D
footprint SRN3015C100M
pins: 1, 2

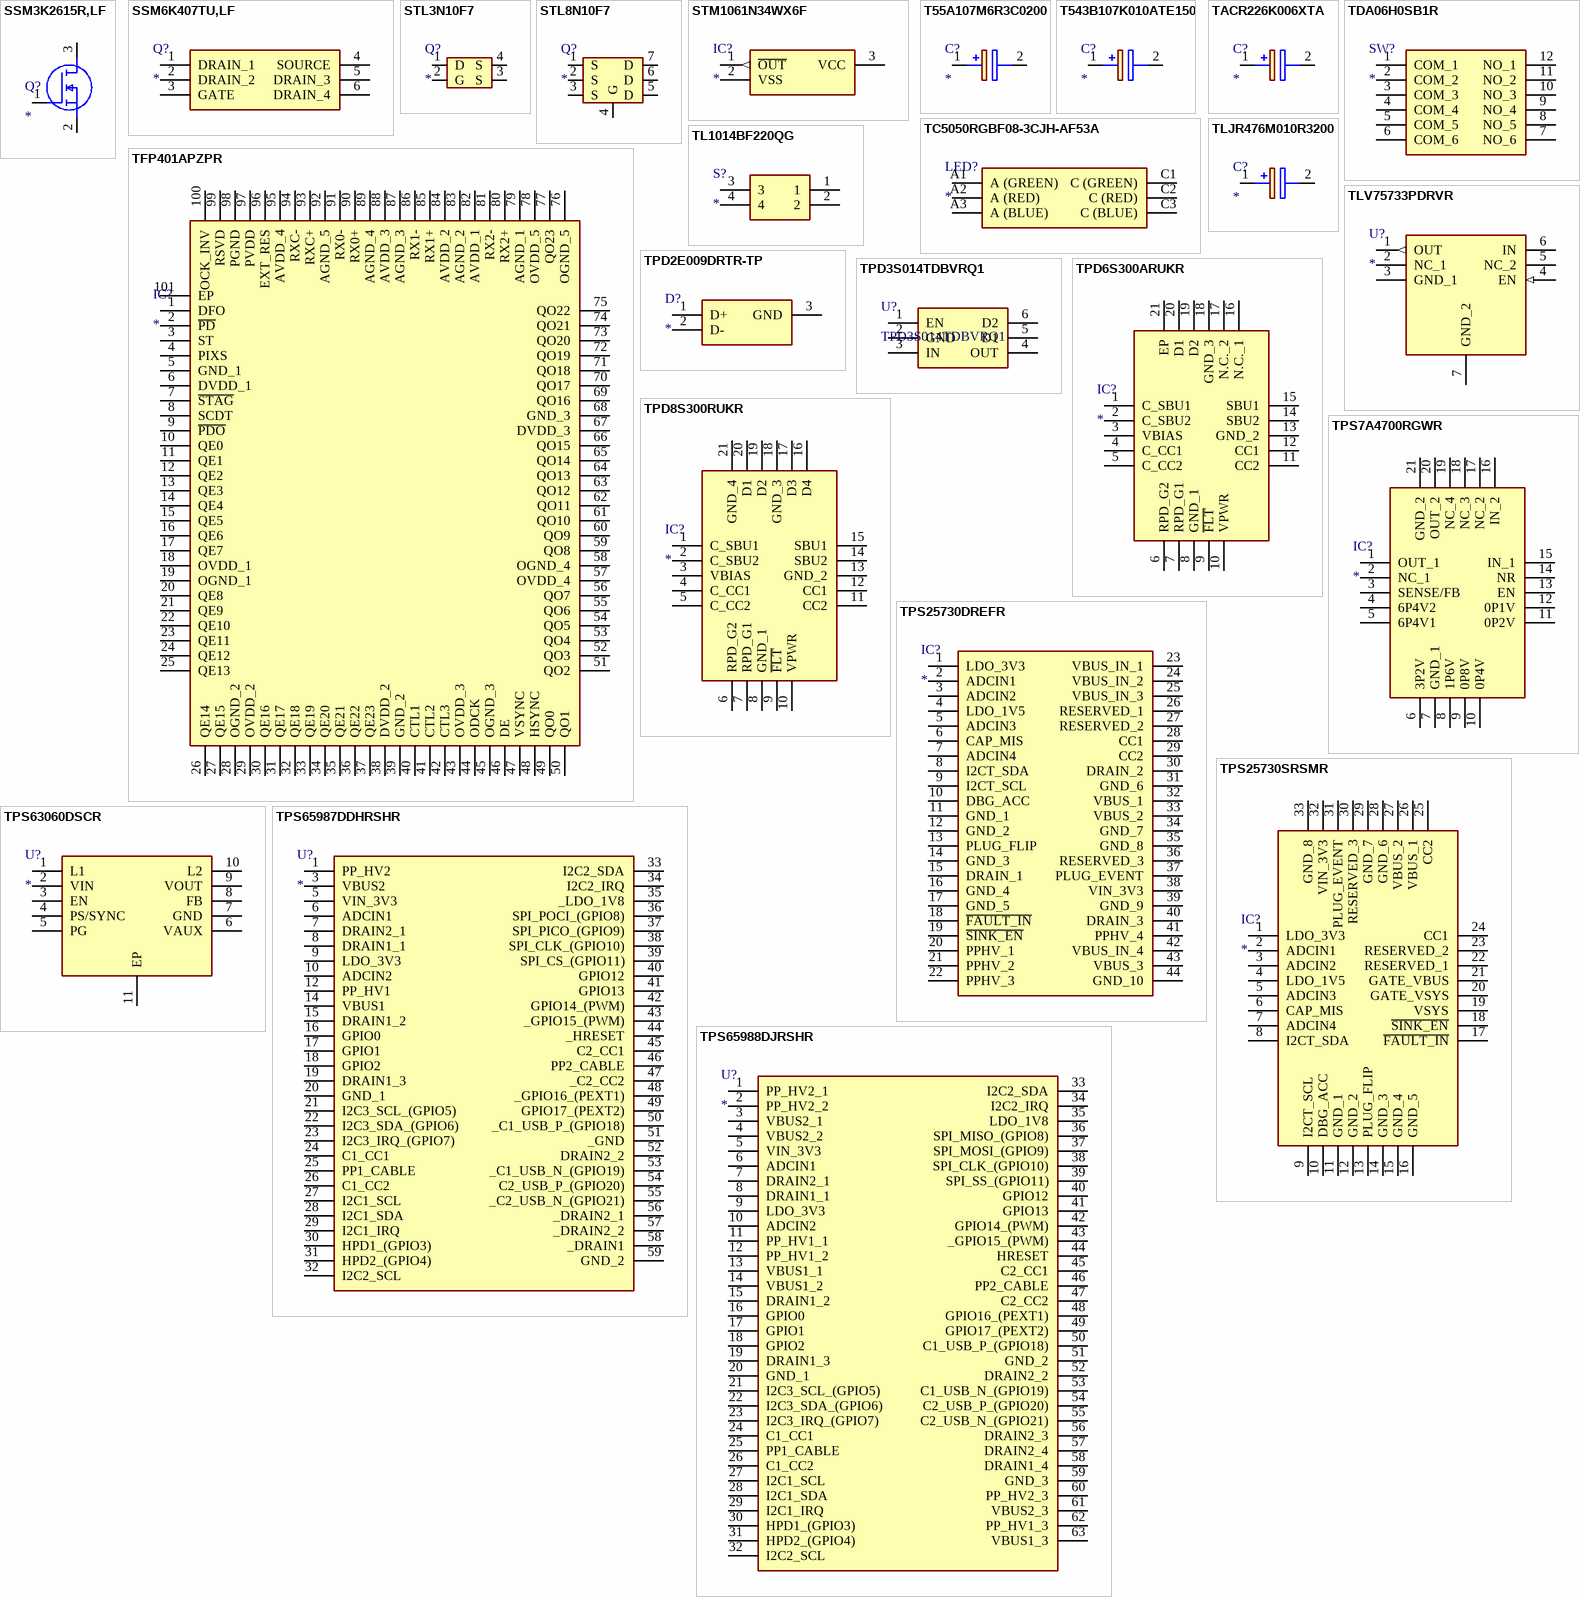
[diagram p4: symbols SSM3K2615R,LF to TPS65988DJRSHR]

## SSM3K2615R,LF
designator Q?
MOSFET (N-Channel); Manufacturer_Name: Toshiba; Manufacturer_Part_Number: SSM3K2615R,LF; Datasheet Link: http://toshiba.semicon-storage.com/info/docget.jsp?did=15672&prodName=SSM3K2615R; Height: 0.88mm; Mouser Part Number: 757-SSM3K2615RLF; Mouser Price/Stock: https://www.mouser.co.uk/ProductDetail/Toshiba/SSM3K2615RLF?qs=bKenfurwlsmmBG7lMelwgg%3D%3D; Arrow Part Number: SSM3K2615R,LF; Arrow Price/Stock: https://www.arrow.com/en/products/ssm3k2615rlf/toshiba?region=nac
footprint SOTFL95P240X88-3N
pins: 1 G, 2 S, 3 D

## SSM6K407TU,LF
designator Q?
MOSFET (N-Channel); Manufacturer_Name: Toshiba; Manufacturer_Part_Number: SSM6K407TU,LF; Datasheet Link: https://toshiba.semicon-storage.com/info/docget.jsp?did=10949&prodName=SSM6K407TU; Height: 0.75mm; Mouser Part Number: 757-SSM6K407TULF; Mouser Price/Stock: https://www.mouser.co.uk/ProductDetail/Toshiba/SSM6K407TULF?qs=bZr6mbWTK5lPy8Mm8BrRrQ%3D%3D
footprint SOTFL65P210X75-6N
pins: 1 DRAIN_1, 2 DRAIN_2, 3 GATE, 4 SOURCE, 5 DRAIN_3, 6 DRAIN_4

## STL3N10F7
designator Q?
MOSFET (N-Channel); Manufacturer_Name: STMicroelectronics; Manufacturer_Part_Number: STL3N10F7; Description: N-channel 100 V; Datasheet Link: https://www.st.com/resource/en/datasheet/stl3n10f7.pdf; Height: 0.8mm; Mouser Part Number: 511-STL3N10F7; Mouser Price/Stock: https://www.mouser.co.uk/ProductDetail/STMicroelectronics/STL3N10F7?qs=DqCdCwOw4%2F7465H%2FZZJt7g%3D%3D
footprint STL3N10F7
pins: 1 D, 2 G, 3 S, 4 S

## STL8N10F7
designator Q?
MOSFET (N-Channel); Manufacturer_Name: STMicroelectronics; Manufacturer_Part_Number: STL8N10F7; Datasheet Link: https://componentsearchengine.com/Datasheets/2/STL8N10F7.pdf; Height: 0.9mm; Mouser Part Number: 511-STL8N10F7; Mouser Price/Stock: https://www.mouser.co.uk/ProductDetail/STMicroelectronics/STL8N10F7?qs=DqCdCwOw4%2F4Qzkp1A1E6dA%3D%3D; Arrow Part Number: STL8N10F7; Arrow Price/Stock: https://www.arrow.com/en/products/stl8n10f7/stmicroelectronics?region=europe
footprint STL8N10F7
pins: 1 S, 2 S, 3 S, 4 G, 5 D, 6 D, 7 D

## STM1061N34WX6F
designator IC?
Integrated Circuit; Manufacturer_Name: STMicroelectronics; Manufacturer_Part_Number: STM1061N34WX6F; Datasheet Link: http://www.st.com/web/en/resource/technical/document/datasheet/CD00065467.pdf; Height: 1.12mm; Mouser Part Number: 511-STM1061N34WX6F; Mouser Price/Stock: https://www.mouser.co.uk/ProductDetail/STMicroelectronics/STM1061N34WX6F?qs=6ARB0lp6jlVg9dA8QEBcVw%3D%3D; Arrow Part Number: STM1061N34WX6F; Arrow Price/Stock: https://www.arrow.com/en/products/stm1061n34wx6f/stmicroelectronics?region=nac
footprint SOT103P237X112-3N
pins: 1 ~{OUT} (out), 2 VSS (power), 3 VCC (power)

## T55A107M6R3C0200
designator C?
Capacitor Polarised; Manufacturer_Name: Vishay; Manufacturer_Part_Number: T55A107M6R3C0200; Datasheet Link: http://www.farnell.com/datasheets/2617051.pdf; Height: 1.8mm; Mouser Part Number: 74-T55A107M6R3C0200; Mouser Price/Stock: https://www.mouser.com/Search/Refine.aspx?Keyword=74-T55A107M6R3C0200; Arrow Part Number: T55A107M6R3C0200; Arrow Price/Stock: https://www.arrow.com/en/products/t55a107m6r3c0200/vishay
footprint CAPPM3216X180N
pins: 1 +, 2 -

## T543B107K010ATE150
designator C?
Capacitor Polarised; Manufacturer_Name: KEMET; Manufacturer_Part_Number: T543B107K010ATE150; Datasheet Link: https://content.kemet.com/datasheets/KEM_T2061_T543.pdf; Height: 2.1mm; Mouser Part Number: 80-T543B107K010TE150; Mouser Price/Stock: https://www.mouser.co.uk/ProductDetail/KEMET/T543B107K010ATE150?qs=y7nDHi%252Bpgs9ss4SLYsqvJg%3D%3D
footprint CAPPM3528X210N
pins: 1 +, 2 -

## TACR226K006XTA
designator C?
Capacitor Polarised; Manufacturer_Name: Kyocera AVX; Manufacturer_Part_Number: TACR226K006XTA; Datasheet Link: https://datasheet.datasheetarchive.com/originals/dk/DKDS-7/134542.pdf; Height: 1.5mm; Mouser Part Number: 581-TACR226K006X; Mouser Price/Stock: https://www.mouser.co.uk/ProductDetail/AVX/TACR226K006XTA?qs=1dejQ3qkUTm9Nv2ucYYT5g%3D%3D; Arrow Part Number: TACR226K006XTA; Arrow Price/Stock: https://www.arrow.com/en/products/tacr226k006xta/avx
footprint CAPPC2114X150N
pins: 1 +, 2 -

## TC5050RGBF08-3CJH-AF53A
designator LED?
RGB LED; Manufacturer: TCWIN; Manufacturer_Part_Number: TC5050RGBF08-3CJH-AF53A; Datasheet Link: https://www.lcsc.com/datasheet/lcsc_datasheet_2307310952_TCWIN-TC5050RGBF08-3CJH-AF53A_C784540.pdf; Height: 1.60mm; Supplier: LCSC; Supplier_Part_Number: C784540
footprint TC5050RGBF08-3CJH-AF53A
pins: A1 A (GREEN), A2 A (RED), A3 A (BLUE), C1 C (GREEN), C2 C (RED), C3 C (BLUE)

## TDA06H0SB1R
designator SW?
Switch; Manufacturer_Name: C & K COMPONENTS; Manufacturer_Part_Number: TDA06H0SB1R; Datasheet Link: https://www.ckswitches.com/media/1328/tda.pdf; Height: 2.3mm; Mouser Part Number: 611-TDA06H0SB1R; Mouser Price/Stock: https://www.mouser.co.uk/ProductDetail/CK/TDA06H0SB1R?qs=%2FNF5U5UGuWkp6rUoQscbxA%3D%3D; Arrow Part Number: TDA06H0SB1R; Arrow Price/Stock: https://www.arrow.com/en/products/tda06h0sb1r/ck?region=nac
footprint TDA06H0SB1R
pins: 1 COM_1, 2 COM_2, 3 COM_3, 4 COM_4, 5 COM_5, 6 COM_6, 7 NO_6, 8 NO_5, 9 NO_4, 10 NO_3, 11 NO_2, 12 NO_1

## TFP401APZPR
designator IC?
Integrated Circuit; Manufacturer_Name: Texas Instruments; Manufacturer_Part_Number: TFP401APZPR; Datasheet Link: http://www.ti.com/lit/gpn/TFP401A; Height: 1.2mm; Mouser Part Number: 595-TFP401APZPR; Mouser Price/Stock: https://www.mouser.co.uk/ProductDetail/Texas-Instruments/TFP401APZPR?qs=lc2O%252BfHJPVYfuIDQbAsRYg%3D%3D; Arrow Part Number: TFP401APZPR; Arrow Price/Stock: https://www.arrow.com/en/products/tfp401apzpr/texas-instruments?region=nac
footprint QFP50P1600X1600X120-100N
pins: 1 DFO, 2 ~{PD}, 3 ST, 4 PIXS, 5 GND_1, 6 DVDD_1, 7 ~{STAG}, 8 SCDT, 9 ~{PDO}, 10 QE0, 11 QE1, 12 QE2, 13 QE3, 14 QE4, 15 QE5, 16 QE6, 17 QE7, 18 OVDD_1, 19 OGND_1, 20 QE8, 21 QE9, 22 QE10, 23 QE11, 24 QE12, 25 QE13, 26 QE14, 27 QE15, 28 OGND_2, 29 OVDD_2, 30 QE16, 31 QE17, 32 QE18, 33 QE19, 34 QE20, 35 QE21, 36 QE22, 37 QE23, 38 DVDD_2, 39 GND_2, 40 CTL1, 41 CTL2, 42 CTL3, 43 OVDD_3, 44 ODCK, 45 OGND_3, 46 DE, 47 VSYNC, 48 HSYNC, 49 QO0, 50 QO1, 51 QO2, 52 QO3, 53 QO4, 54 QO5, 55 QO6, 56 QO7, 57 OVDD_4, 58 OGND_4, 59 QO8, 60 QO9, 61 QO10, 62 QO11, 63 QO12, 64 QO13, 65 QO14, 66 QO15, 67 DVDD_3, 68 GND_3, 69 QO16, 70 QO17, 71 QO18, 72 QO19, 73 QO20, 74 QO21, 75 QO22, 76 OGND_5, 77 QO23, 78 OVDD_5, 79 AGND_1, 80 RX2+, 81 RX2-, 82 AVDD_1, 83 AGND_2, 84 AVDD_2, 85 RX1+, 86 RX1-, 87 AGND_3, 88 AVDD_3, 89 AGND_4, 90 RX0+, 91 RX0-, 92 AGND_5, 93 RXC+, 94 RXC-, 95 AVDD_4, 96 EXT_RES, 97 PVDD, 98 PGND, 99 RSVD, 100 OCK_INV, 101 EP

## TL1014BF220QG
designator S?
Switch; Manufacturer_Name: E-Switch; Manufacturer_Part_Number: TL1014BF220QG; Datasheet Link: https://configured-product-images.s3.amazonaws.com/2D/specs/TL1014BF220QG.pdf; Height: 1.9mm; Mouser Part Number: 612-TL1014BF220QG; Mouser Price/Stock: https://www.mouser.co.uk/ProductDetail/E-Switch/TL1014BF220QG?qs=fi7yB2oewZm7h9HtMO5ZZA%3D%3D
footprint TL1014BF220QG
pins: 1, 2, 3, 4

## TLJR476M010R3200
designator C?
Capacitor Polarised; Manufacturer_Name: Kyocera AVX; Manufacturer_Part_Number: TLJR476M010R3200; Datasheet Link: https://componentsearchengine.com/Datasheets/1/TLJR476M010R3200.pdf; Height: 1.4mm; Mouser Part Number: 581-TLJR476M10R3200; Mouser Price/Stock: https://www.mouser.co.uk/ProductDetail/AVX/TLJR476M010R3200?qs=WRdLm8viVpRFTfIUy8OazQ%3D%3D; Arrow Part Number: TLJR476M010R3200; Arrow Price/Stock: https://www.arrow.com/en/products/tljr476m010r3200/avx
footprint CAPPM2014X140N
pins: 1 +, 2 -

## TLV75733PDRVR
designator U?
Power Supply; Manufacturer_Name: Texas Instruments; Manufacturer_Part_Number: TLV75733PDRVR; Datasheet Link: http://www.ti.com/lit/gpn/tlv757p; Height: 0.8mm; Mouser Part Number: 595-TLV75733PDRVR; Mouser Price/Stock: https://www.mouser.co.uk/ProductDetail/Texas-Instruments/TLV75733PDRVR?qs=W0yvOO0ixfGlytsi33vetg%3D%3D; Arrow Part Number: TLV75733PDRVR; Arrow Price/Stock: https://www.arrow.com/en/products/tlv75733pdrvr/texas-instruments?region=europe
footprint SON65P200X200X80-7N
pins: 1 OUT (out), 2 NC_1, 3 GND_1 (power), 4 EN (in), 5 NC_2, 6 IN (power), 7 GND_2 (power)

## TPD2E009DRTR-TP
designator D?
Integrated Circuit; Manufacturer_Name: Texas Instruments; Manufacturer_Part_Number: TPD2E009DRTR-TP; Datasheet Link: https://www.ti.com/lit/ds/symlink/tpd2e009.pdf?ts=1621336941637&ref_url=https%253A%252F%252Fwww.google.com%252F; Height: 0.5mm; Supplier 1: LCSC; Supplier Part Number 1: C2858690
footprint SOT-723_L1.2-W0.8-P0.40-LS1.2-BR
pins: 1 D+, 2 D-, 3 GND

## TPD3S014TDBVRQ1
designator U?
Switch; Manufacturer_Name: Texas Instruments; Datasheet Link: http://www.ti.com/lit/gpn/tpd3s014-q1; Height: 1.45mm; Manufacturer_Part_Number: TPD3S014TDBVRQ1; Mouser Part Number: 595-TPD3S014TDBVRQ1; Mouser Price/Stock: https://www.mouser.co.uk/ProductDetail/Texas-Instruments/TPD3S014TDBVRQ1?qs=f4l5qYp%2Fy%252B4t4RRhQp5Ndw%3D%3D; Arrow Part Number: TPD3S014TDBVRQ1; Arrow Price/Stock: https://www.arrow.com/en/products/tpd3s014tdbvrq1/texas-instruments?region=nac
footprint SOT95P280X145-6N
pins: 1 EN, 2 GND, 3 IN, 4 OUT, 5 D1, 6 D2

## TPD6S300ARUKR
designator IC?
Integrated Circuit; Manufacturer_Name: Texas Instruments; Manufacturer_Part_Number: TPD6S300ARUKR; Datasheet Link: http://www.ti.com/lit/gpn/tpd6s300a; Height: 0.8mm; Mouser Part Number: 595-TPD6S300ARUKR; Mouser Price/Stock: https://www.mouser.co.uk/ProductDetail/Texas-Instruments/TPD6S300ARUKR?qs=%252BEew9%252B0nqrA1G22imPqdyw%3D%3D; Arrow Part Number: TPD6S300ARUKR; Arrow Price/Stock: null?region=nac
footprint QFN40P300X300X80-21N-D
pins: 1 C_SBU1, 2 C_SBU2, 3 VBIAS, 4 C_CC1, 5 C_CC2, 6 RPD_G2, 7 RPD_G1, 8 GND_1, 9 ~{FLT}, 10 VPWR, 11 CC2, 12 CC1, 13 GND_2, 14 SBU2, 15 SBU1, 16 N.C._1, 17 N.C._2, 18 GND_3, 19 D2, 20 D1, 21 EP

## TPD8S300RUKR
designator IC?
Integrated Circuit; Manufacturer_Name: Texas Instruments; Manufacturer_Part_Number: TPD8S300RUKR; Datasheet Link: http://www.ti.com/lit/gpn/tpd8s300; Height: 0.8mm; Mouser Part Number: 595-TPD8S300RUKR; Mouser Price/Stock: https://www.mouser.co.uk/ProductDetail/Texas-Instruments/TPD8S300RUKR?qs=KuuZdrM3jLxuJ5q64YSnFw%3D%3D; Arrow Part Number: TPD8S300RUKR; Arrow Price/Stock: https://www.arrow.com/en/products/tpd8s300rukr/texas-instruments
footprint QFN40P300X300X80-21N-D
pins: 1 C_SBU1, 2 C_SBU2, 3 VBIAS, 4 C_CC1, 5 C_CC2, 6 RPD_G2, 7 RPD_G1, 8 GND_1, 9 ~{FLT}, 10 VPWR, 11 CC2, 12 CC1, 13 GND_2, 14 SBU2, 15 SBU1, 16 D4, 17 D3, 18 GND_3, 19 D2, 20 D1, 21 GND_4

## TPS7A4700RGWR
designator IC?
Integrated Circuit; Manufacturer_Name: Texas Instruments; Manufacturer_Part_Number: TPS7A4700RGWR; Datasheet Link: http://www.ti.com/lit/gpn/tps7a47; Height: 1mm; Mouser Part Number: 595-TPS7A4700RGWR; Mouser Price/Stock: https://www.mouser.co.uk/ProductDetail/Texas-Instruments/TPS7A4700RGWR?qs=b5Ofe9I6AaEq0TfoG6v9lA%3D%3D; Arrow Part Number: TPS7A4700RGWR; Arrow Price/Stock: https://www.arrow.com/en/products/tps7a4700rgwr/texas-instruments?region=nac
footprint QFN65P500X500X100-21N-D
pins: 1 OUT_1, 2 NC_1, 3 SENSE/FB, 4 6P4V2, 5 6P4V1, 6 3P2V, 7 GND_1, 8 1P6V, 9 0P8V, 10 0P4V, 11 0P2V, 12 0P1V, 13 EN, 14 NR, 15 IN_1, 16 IN_2, 17 NC_2, 18 NC_3, 19 NC_4, 20 OUT_2, 21 GND_2

## TPS25730DREFR
designator IC?
Integrated Circuit; Manufacturer_Name: Texas Instruments; Manufacturer_Part_Number: TPS25730DREFR; Datasheet Link: https://www.ti.com/lit/ds/symlink/tps25730.pdf?ts=1707773923998&ref_url=https%253A%252F%252Fwww.mouser.at%252F; Height: 0.8mm
footprint TPS25730DREFR
pins: 1 LDO_3V3, 2 ADCIN1, 3 ADCIN2, 4 LDO_1V5, 5 ADCIN3, 6 CAP_MIS, 7 ADCIN4, 8 I2CT_SDA, 9 I2CT_SCL, 10 DBG_ACC, 11 GND_1, 12 GND_2, 13 PLUG_FLIP, 14 GND_3, 15 DRAIN_1, 16 GND_4, 17 GND_5, 18 ~{FAULT_IN}, 19 ~{SINK_EN}, 20 PPHV_1, 21 PPHV_2, 22 PPHV_3, 23 VBUS_IN_1, 24 VBUS_IN_2, 25 VBUS_IN_3, 26 RESERVED_1, 27 RESERVED_2, 28 CC1, 29 CC2, 30 DRAIN_2, 31 GND_6, 32 VBUS_1, 33 VBUS_2, 34 GND_7, 35 GND_8, 36 RESERVED_3, 37 PLUG_EVENT, 38 VIN_3V3, 39 GND_9, 40 DRAIN_3, 41 PPHV_4, 42 VBUS_IN_4, 43 VBUS_3, 44 GND_10

## TPS25730SRSMR
designator IC?
Integrated Circuit; Manufacturer_Name: Texas Instruments; Manufacturer_Part_Number: TPS25730SRSMR; Datasheet Link: https://www.ti.com/lit/gpn/tps25730; Height: 1mm; Mouser Part Number: 595-TPS25730SRSMR; Mouser Price/Stock: https://www.mouser.co.uk/ProductDetail/Texas-Instruments/TPS25730SRSMR?qs=Z%252BL2brAPG1I6BwfkKI1wWQ%3D%3D
footprint QFN40P400X400X100-33N-D
pins: 1 LDO_3V3, 2 ADCIN1, 3 ADCIN2, 4 LDO_1V5, 5 ADCIN3, 6 CAP_MIS, 7 ADCIN4, 8 I2CT_SDA, 9 I2CT_SCL, 10 DBG_ACC, 11 GND_1, 12 GND_2, 13 PLUG_FLIP, 14 GND_3, 15 GND_4, 16 GND_5, 17 ~{FAULT_IN}, 18 ~{SINK_EN}, 19 VSYS, 20 GATE_VSYS, 21 GATE_VBUS, 22 RESERVED_1, 23 RESERVED_2, 24 CC1, 25 CC2, 26 VBUS_1, 27 VBUS_2, 28 GND_6, 29 GND_7, 30 RESERVED_3, 31 PLUG_EVENT, 32 VIN_3V3, 33 GND_8

## TPS63060DSCR
designator U?
Integrated Circuit; Manufacturer_Name: Texas Instruments; Manufacturer_Part_Number: TPS63060DSCR; Datasheet Link: http://www.ti.com/lit/gpn/tps63060; Height: 0.8mm; Mouser Part Number: 595-TPS63060DSCR; Mouser Price/Stock: https://www.mouser.co.uk/ProductDetail/Texas-Instruments/TPS63060DSCR?qs=3jfYfyvUSwA68pYl7mRJ2w%3D%3D; Arrow Part Number: TPS63060DSCR; Arrow Price/Stock: https://www.arrow.com/en/products/tps63060dscr/texas-instruments?region=nac
footprint SON50P300X300X80-11N-D
pins: 1 L1, 2 VIN, 3 EN, 4 PS/SYNC, 5 PG, 6 VAUX, 7 GND, 8 FB, 9 VOUT, 10 L2, 11 EP

## TPS65987DDHRSHR
designator U?
Integrated Circuit; Manufacturer_Name: Texas Instruments; Manufacturer_Part_Number: TPS65987DDHRSHR; Datasheet Link: https://www.ti.com/lit/ds/symlink/tps65987d.pdf?HQS=dis-mous-null-mousermode-dsf-pf-null-wwe&ts=1685134607223&ref_url=https%253A%252F%252Fwww.mouser.com%252F; Height: 1mm; Mouser Part Number: 595-TPS65987DDHRSHR; Mouser Price/Stock: https://www.mouser.co.uk/ProductDetail/Texas-Instruments/TPS65987DDHRSHR?qs=gTYE2QTfZfQlr3aCgkbDMg%3D%3D; Arrow Part Number: TPS65987DDHRSHR; Arrow Price/Stock: https://www.arrow.com/en/products/tps65987ddhrshr/texas-instruments?region=nac
footprint TPS65987DDHRSHR
pins: 1 PP_HV2, 3 VBUS2, 5 VIN_3V3, 6 ADCIN1, 7 DRAIN2_1, 8 DRAIN1_1, 9 LDO_3V3, 10 ADCIN2, 12 PP_HV1, 14 VBUS1, 15 DRAIN1_2, 16 GPIO0, 17 GPIO1, 18 GPIO2, 19 DRAIN1_3, 20 GND_1, 21 I2C3_SCL_(GPIO5), 22 I2C3_SDA_(GPIO6), 23 I2C3_IRQ_(GPIO7), 24 C1_CC1, 25 PP1_CABLE, 26 C1_CC2, 27 I2C1_SCL, 28 I2C1_SDA, 29 I2C1_IRQ, 30 HPD1_(GPIO3), 31 HPD2_(GPIO4), 32 I2C2_SCL, 33 I2C2_SDA, 34 I2C2_IRQ, 35 _LDO_1V8, 36 SPI_POCI_(GPIO8), 37 SPI_PICO_(GPIO9), 38 SPI_CLK_(GPIO10), 39 SPI_CS_(GPIO11), 40 GPIO12, 41 GPIO13, 42 GPIO14_(PWM), 43 _GPIO15_(PWM), 44 _HRESET, 45 C2_CC1, 46 PP2_CABLE, 47 _C2_CC2, 48 _GPIO16_(PEXT1), 49 GPIO17_(PEXT2), 50 _C1_USB_P_(GPIO18), 51 _GND, 52 DRAIN2_2, 53 _C1_USB_N_(GPIO19), 54 C2_USB_P_(GPIO20), 55 _C2_USB_N_(GPIO21), 56 _DRAIN2_1, 57 _DRAIN2_2, 58 _DRAIN1, 59 GND_2

## TPS65988DJRSHR
designator U?
Integrated Circuit; Manufacturer_Name: Texas Instruments; Manufacturer_Part_Number: TPS65988DJRSHR; Datasheet Link: http://www.ti.com/lit/gpn/TPS65988DJ; Height: 1mm; Mouser Part Number: 595-TPS65988DJRSHR; Mouser Price/Stock: https://www.mouser.co.uk/ProductDetail/Texas-Instruments/TPS65988DJRSHR?qs=T3oQrply3y8cml9f5FMm3A%3D%3D; Arrow Part Number: TPS65988DJRSHR; Arrow Price/Stock: https://www.arrow.com/en/products/tps65988djrshr/texas-instruments?region=nac
footprint TPS65988DJRSHR
pins: 1 PP_HV2_1, 2 PP_HV2_2, 3 VBUS2_1, 4 VBUS2_2, 5 VIN_3V3, 6 ADCIN1, 7 DRAIN2_1, 8 DRAIN1_1, 9 LDO_3V3, 10 ADCIN2, 11 PP_HV1_1, 12 PP_HV1_2, 13 VBUS1_1, 14 VBUS1_2, 15 DRAIN1_2, 16 GPIO0, 17 GPIO1, 18 GPIO2, 19 DRAIN1_3, 20 GND_1, 21 I2C3_SCL_(GPIO5), 22 I2C3_SDA_(GPIO6), 23 I2C3_IRQ_(GPIO7), 24 C1_CC1, 25 PP1_CABLE, 26 C1_CC2, 27 I2C1_SCL, 28 I2C1_SDA, 29 I2C1_IRQ, 30 HPD1_(GPIO3), 31 HPD2_(GPIO4), 32 I2C2_SCL, 33 I2C2_SDA, 34 I2C2_IRQ, 35 LDO_1V8, 36 SPI_MISO_(GPIO8), 37 SPI_MOSI_(GPIO9), 38 SPI_CLK_(GPIO10), 39 SPI_SS_(GPIO11), 40 GPIO12, 41 GPIO13, 42 GPIO14_(PWM), 43 _GPIO15_(PWM), 44 HRESET, 45 C2_CC1, 46 PP2_CABLE, 47 C2_CC2, 48 GPIO16_(PEXT1), 49 GPIO17_(PEXT2), 50 C1_USB_P_(GPIO18), 51 GND_2, 52 DRAIN2_2, 53 C1_USB_N_(GPIO19), 54 C2_USB_P_(GPIO20), 55 C2_USB_N_(GPIO21), 56 DRAIN2_3, 57 DRAIN2_4, 58 DRAIN1_4, 59 GND_3, 60 PP_HV2_3, 61 VBUS2_3, 62 PP_HV1_3, 63 VBUS1_3

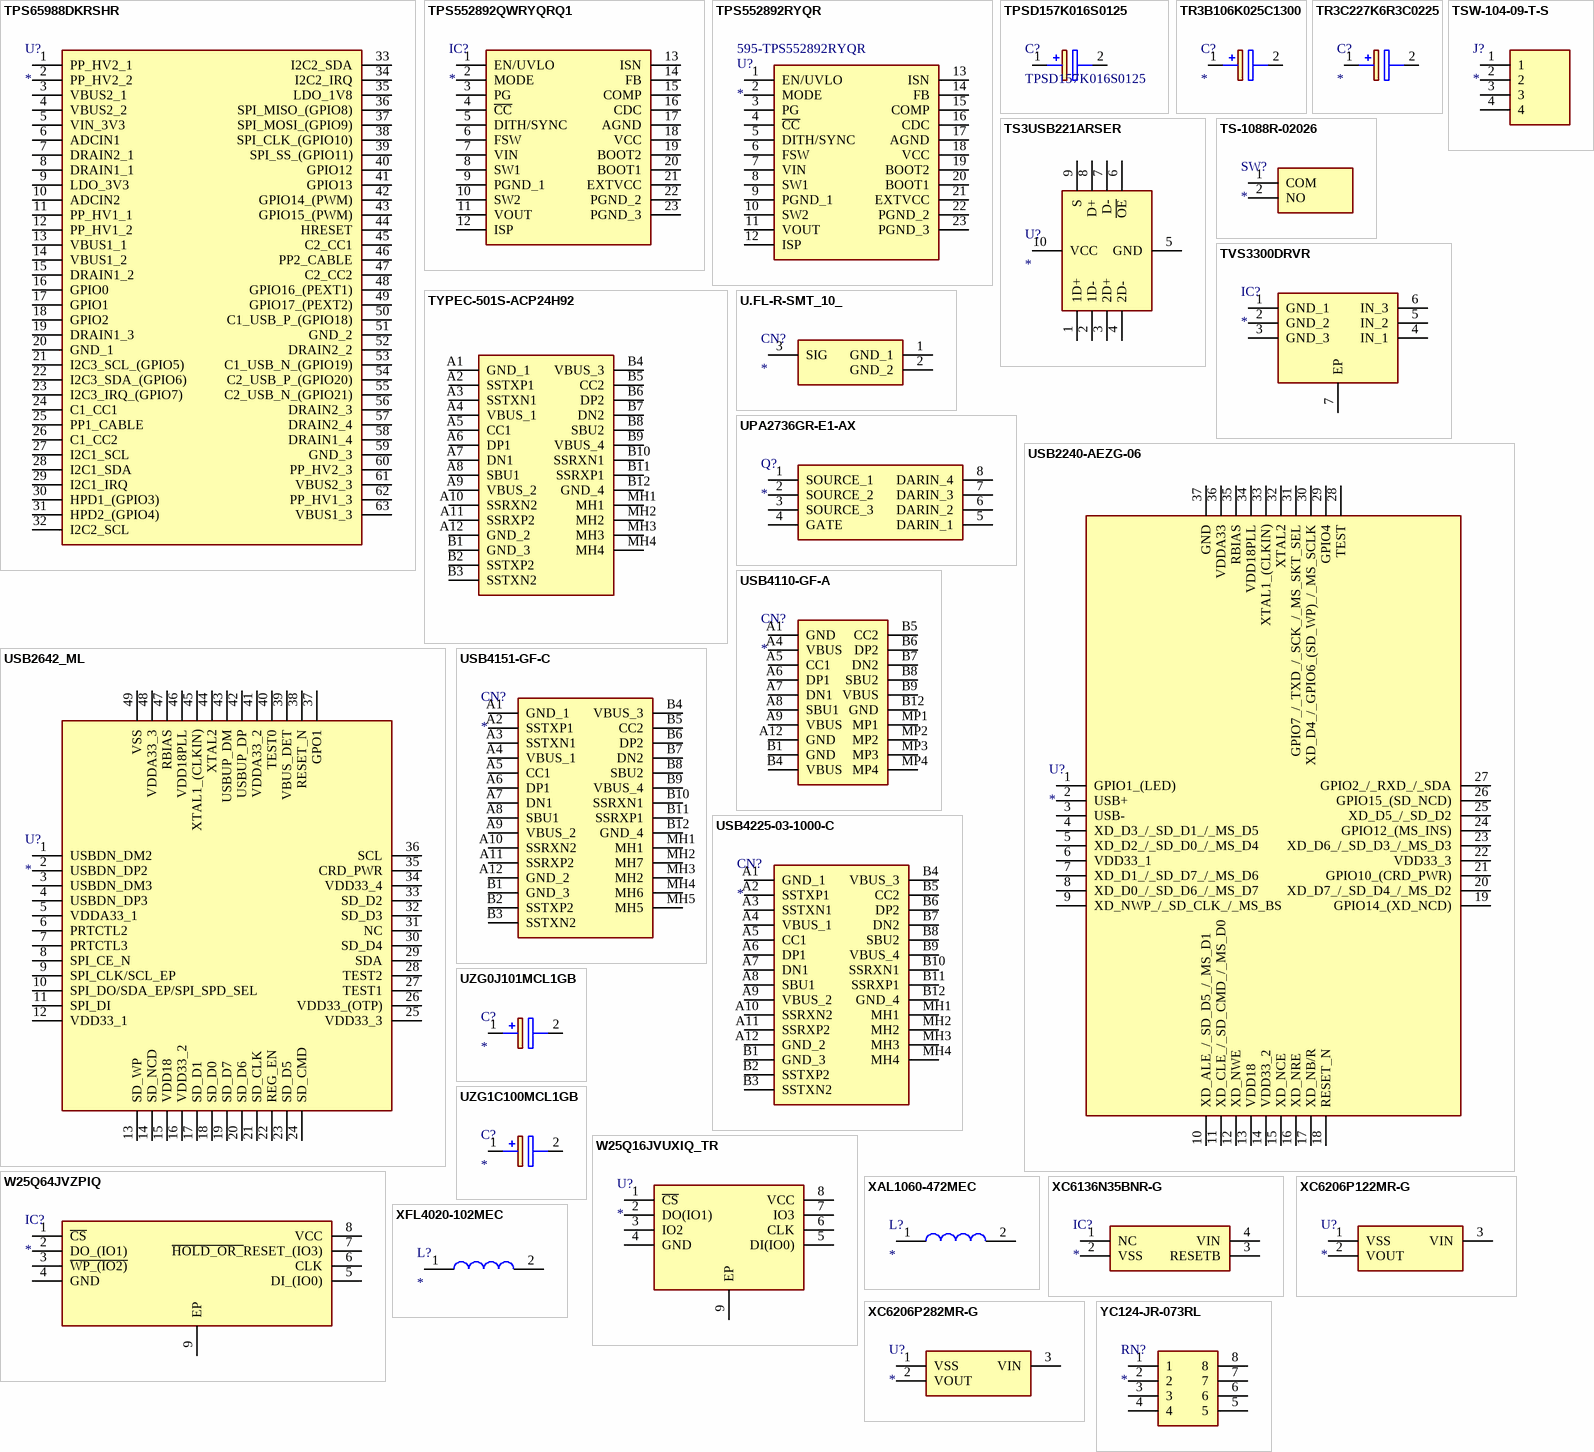
[diagram p5: symbols TPS65988DKRSHR to YC124-JR-073RL]

## TPS65988DKRSHR
designator U?
Integrated Circuit; Manufacturer_Name: Texas Instruments; Manufacturer_Part_Number: TPS65988DKRSHR; Datasheet Link: https://www.ti.com/lit/gpn/tps65988dk?HQS=ti-null-null-sf-df-pf-sep-wwe&DCM=yes; Height: 1mm; Mouser Part Number: 595-TPS65988DKRSHR; Mouser Price/Stock: https://www.mouser.co.uk/ProductDetail/Texas-Instruments/TPS65988DKRSHR?qs=DPoM0jnrROUevQj%2FLwa4Vw%3D%3D; Arrow Part Number: TPS65988DKRSHR; Arrow Price/Stock: https://www.arrow.com/en/products/tps65988dkrshr/texas-instruments?region=nac
footprint TPS65988DKRSHR
pins: 1 PP_HV2_1, 2 PP_HV2_2, 3 VBUS2_1, 4 VBUS2_2, 5 VIN_3V3, 6 ADCIN1, 7 DRAIN2_1, 8 DRAIN1_1, 9 LDO_3V3, 10 ADCIN2, 11 PP_HV1_1, 12 PP_HV1_2, 13 VBUS1_1, 14 VBUS1_2, 15 DRAIN1_2, 16 GPIO0, 17 GPIO1, 18 GPIO2, 19 DRAIN1_3, 20 GND_1, 21 I2C3_SCL_(GPIO5), 22 I2C3_SDA_(GPIO6), 23 I2C3_IRQ_(GPIO7), 24 C1_CC1, 25 PP1_CABLE, 26 C1_CC2, 27 I2C1_SCL, 28 I2C1_SDA, 29 I2C1_IRQ, 30 HPD1_(GPIO3), 31 HPD2_(GPIO4), 32 I2C2_SCL, 33 I2C2_SDA, 34 I2C2_IRQ, 35 LDO_1V8, 36 SPI_MISO_(GPIO8), 37 SPI_MOSI_(GPIO9), 38 SPI_CLK_(GPIO10), 39 SPI_SS_(GPIO11), 40 GPIO12, 41 GPIO13, 42 GPIO14_(PWM), 43 GPIO15_(PWM), 44 HRESET, 45 C2_CC1, 46 PP2_CABLE, 47 C2_CC2, 48 GPIO16_(PEXT1), 49 GPIO17_(PEXT2), 50 C1_USB_P_(GPIO18), 51 GND_2, 52 DRAIN2_2, 53 C1_USB_N_(GPIO19), 54 C2_USB_P_(GPIO20), 55 C2_USB_N_(GPIO21), 56 DRAIN2_3, 57 DRAIN2_4, 58 DRAIN1_4, 59 GND_3, 60 PP_HV2_3, 61 VBUS2_3, 62 PP_HV1_3, 63 VBUS1_3